# Altium schematic symbol library NXP LPC2000.SchLib: 82 symbols (part 2 of 6)
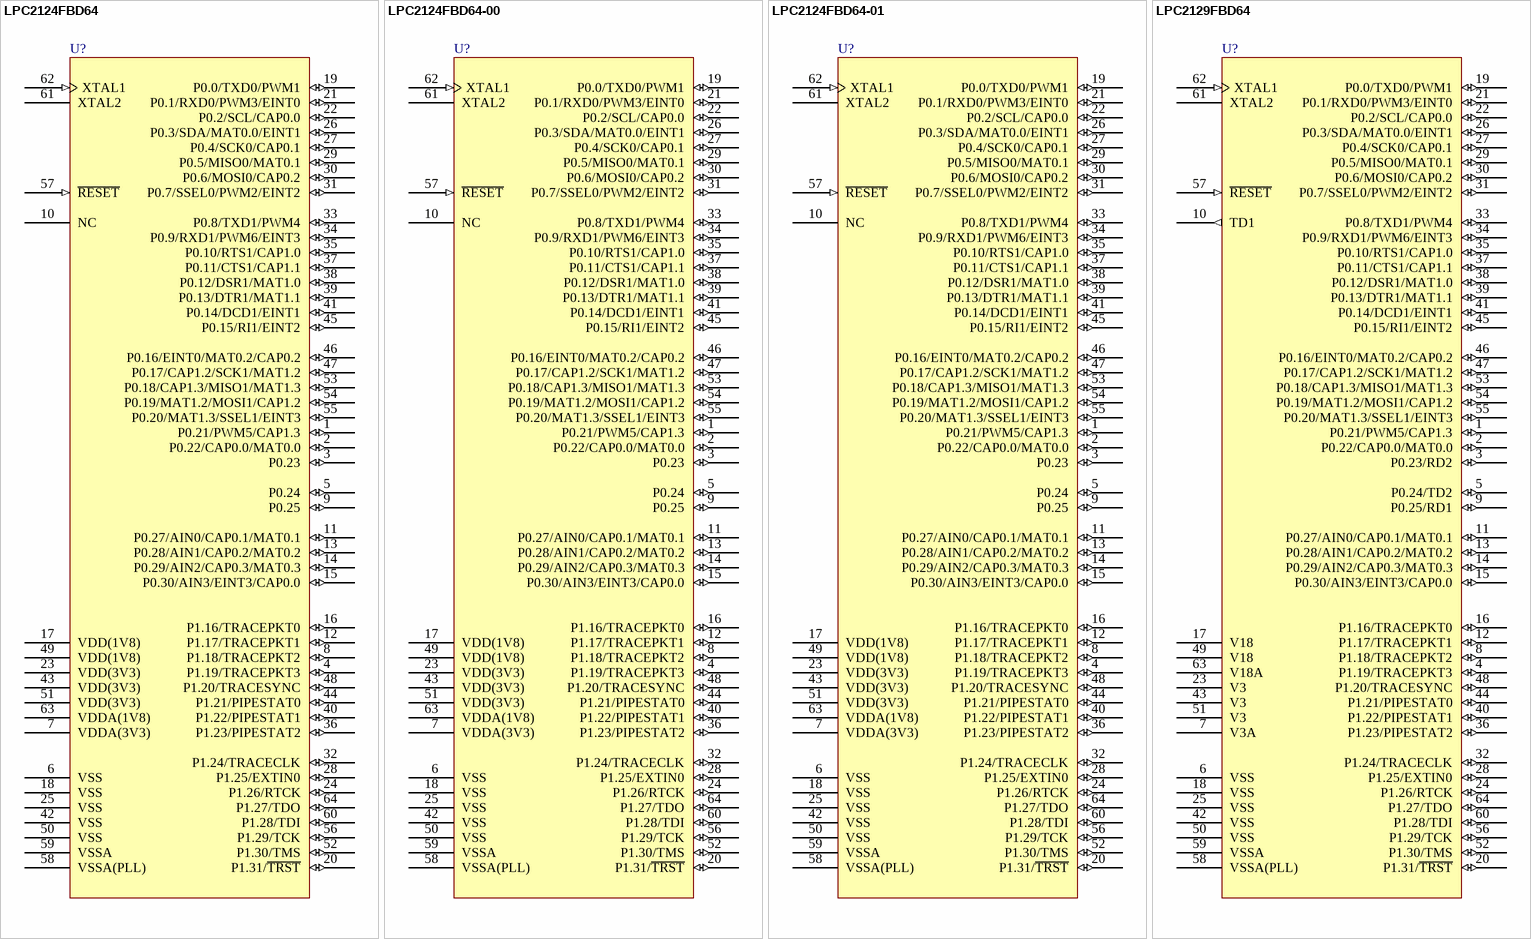
[diagram p30: symbols LPC2124FBD64 to LPC2129FBD64]

## LPC2124FBD64-00
designator U?
ARM7 16/32-Bit Microcontroller, 256KB Flash, 16KB RAM, 64-Lead LQFP; Code_IEC: 136E10; Published: 31-Jul-2006; DatasheetVersion: rev.06, Jul-2007; PackageVersion: Feb-2003; PackageReference: SOT314-2; Publisher: Altium Limited; PackageDescription: 64-Pin Plastic Low Profile Quad Flat Pack; Code_JEDEC: MS-026; ComponentLink1Description: Manufacturer Link; ComponentLink1URL: http://www.nxp.com/; ComponentLink2Description: Datasheet; ComponentLink2URL: http://www.standardics.nxp.com/products/lpc2000/datasheet/lpc2114.lpc2124.pdf
footprint SOT314-2_N (Thin QFP, 64-Leads, Body 10x10mm, Pitch 0.5mm, IPC Medium Density)
footprint SOT314-2_L (Thin QFP, 64-Leads, Body 10x10mm, Pitch 0.5mm, IPC High Density)
footprint SOT314-2_M (Thin QFP, 64-Leads, Body 10x10mm, Pitch 0.5mm, IPC Low Density)
3D model LPC2124-QFP64 (64-Pin Plastic Low Profile Quad Flat Pack)
pins: 1 P0.21/PWM5/CAP1.3 (io), 2 P0.22/CAP0.0/MAT0.0 (io), 3 P0.23 (io), 4 P1.19/TRACEPKT3 (io), 5 P0.24 (io), 6 VSS (power), 7 VDDA(3V3) (power), 8 P1.18/TRACEPKT2 (io), 9 P0.25 (io), 10 NC, 11 P0.27/AIN0/CAP0.1/MAT0.1 (io), 12 P1.17/TRACEPKT1 (io), 13 P0.28/AIN1/CAP0.2/MAT0.2 (io), 14 P0.29/AIN2/CAP0.3/MAT0.3 (io), 15 P0.30/AIN3/EINT3/CAP0.0 (io), 16 P1.16/TRACEPKT0 (io), 17 VDD(1V8) (power), 18 VSS (power), 19 P0.0/TXD0/PWM1 (io), 20 P1.31/~{TRST} (io), 21 P0.1/RXD0/PWM3/EINT0 (io), 22 P0.2/SCL/CAP0.0 (io), 23 VDD(3V3) (power), 24 P1.26/RTCK (io), 25 VSS (power), 26 P0.3/SDA/MAT0.0/EINT1 (io), 27 P0.4/SCK0/CAP0.1 (io), 28 P1.25/EXTIN0 (io), 29 P0.5/MISO0/MAT0.1 (io), 30 P0.6/MOSI0/CAP0.2 (io), 31 P0.7/SSEL0/PWM2/EINT2 (io), 32 P1.24/TRACECLK (io), 33 P0.8/TXD1/PWM4 (io), 34 P0.9/RXD1/PWM6/EINT3 (io), 35 P0.10/RTS1/CAP1.0 (io), 36 P1.23/PIPESTAT2 (io), 37 P0.11/CTS1/CAP1.1 (io), 38 P0.12/DSR1/MAT1.0 (io), 39 P0.13/DTR1/MAT1.1 (io), 40 P1.22/PIPESTAT1 (io), 41 P0.14/DCD1/EINT1 (io), 42 VSS (power), 43 VDD(3V3) (power), 44 P1.21/PIPESTAT0 (io), 45 P0.15/RI1/EINT2 (io), 46 P0.16/EINT0/MAT0.2/CAP0.2 (io), 47 P0.17/CAP1.2/SCK1/MAT1.2 (io), 48 P1.20/TRACESYNC (io), 49 VDD(1V8) (power), 50 VSS (power), 51 VDD(3V3) (power), 52 P1.30/TMS (io), 53 P0.18/CAP1.3/MISO1/MAT1.3 (io), 54 P0.19/MAT1.2/MOSI1/CAP1.2 (io), 55 P0.20/MAT1.3/SSEL1/EINT3 (io), 56 P1.29/TCK (io), 57 ~{RESET} (in), 58 VSSA(PLL) (power), 59 VSSA (power), 60 P1.28/TDI (io), 61 XTAL2, 62 XTAL1 (in), 63 VDDA(1V8) (power), 64 P1.27/TDO (io)

## LPC2124FBD64-01
designator U?
ARM7 16/32-Bit Microcontroller, 256KB Flash, 16KB RAM, Fast GPIO/SSP/Enhanced UART, ADC, Timer, 64-Lead LQFP; Code_IEC: 136E10; Published: 17-Aug-2007; DatasheetVersion: rev.06, Jul-2007; PackageVersion: Feb-2003; PackageReference: SOT314-2; Publisher: Altium Limited; PackageDescription: 64-Pin Plastic Low Profile Quad Flat Pack; Code_JEDEC: MS-026; ComponentLink1Description: Manufacturer Link; ComponentLink1URL: http://www.nxp.com/; ComponentLink2Description: Datasheet; ComponentLink2URL: http://www.standardics.nxp.com/products/lpc2000/datasheet/lpc2114.lpc2124.pdf
footprint SOT314-2_N (Thin QFP, 64-Leads, Body 10x10mm, Pitch 0.5mm, IPC Medium Density)
footprint SOT314-2_L (Thin QFP, 64-Leads, Body 10x10mm, Pitch 0.5mm, IPC High Density)
footprint SOT314-2_M (Thin QFP, 64-Leads, Body 10x10mm, Pitch 0.5mm, IPC Low Density)
3D model LPC2124-QFP64 (64-Pin Plastic Low Profile Quad Flat Pack)
pins: 1 P0.21/PWM5/CAP1.3 (io), 2 P0.22/CAP0.0/MAT0.0 (io), 3 P0.23 (io), 4 P1.19/TRACEPKT3 (io), 5 P0.24 (io), 6 VSS (power), 7 VDDA(3V3) (power), 8 P1.18/TRACEPKT2 (io), 9 P0.25 (io), 10 NC, 11 P0.27/AIN0/CAP0.1/MAT0.1 (io), 12 P1.17/TRACEPKT1 (io), 13 P0.28/AIN1/CAP0.2/MAT0.2 (io), 14 P0.29/AIN2/CAP0.3/MAT0.3 (io), 15 P0.30/AIN3/EINT3/CAP0.0 (io), 16 P1.16/TRACEPKT0 (io), 17 VDD(1V8) (power), 18 VSS (power), 19 P0.0/TXD0/PWM1 (io), 20 P1.31/~{TRST} (io), 21 P0.1/RXD0/PWM3/EINT0 (io), 22 P0.2/SCL/CAP0.0 (io), 23 VDD(3V3) (power), 24 P1.26/RTCK (io), 25 VSS (power), 26 P0.3/SDA/MAT0.0/EINT1 (io), 27 P0.4/SCK0/CAP0.1 (io), 28 P1.25/EXTIN0 (io), 29 P0.5/MISO0/MAT0.1 (io), 30 P0.6/MOSI0/CAP0.2 (io), 31 P0.7/SSEL0/PWM2/EINT2 (io), 32 P1.24/TRACECLK (io), 33 P0.8/TXD1/PWM4 (io), 34 P0.9/RXD1/PWM6/EINT3 (io), 35 P0.10/RTS1/CAP1.0 (io), 36 P1.23/PIPESTAT2 (io), 37 P0.11/CTS1/CAP1.1 (io), 38 P0.12/DSR1/MAT1.0 (io), 39 P0.13/DTR1/MAT1.1 (io), 40 P1.22/PIPESTAT1 (io), 41 P0.14/DCD1/EINT1 (io), 42 VSS (power), 43 VDD(3V3) (power), 44 P1.21/PIPESTAT0 (io), 45 P0.15/RI1/EINT2 (io), 46 P0.16/EINT0/MAT0.2/CAP0.2 (io), 47 P0.17/CAP1.2/SCK1/MAT1.2 (io), 48 P1.20/TRACESYNC (io), 49 VDD(1V8) (power), 50 VSS (power), 51 VDD(3V3) (power), 52 P1.30/TMS (io), 53 P0.18/CAP1.3/MISO1/MAT1.3 (io), 54 P0.19/MAT1.2/MOSI1/CAP1.2 (io), 55 P0.20/MAT1.3/SSEL1/EINT3 (io), 56 P1.29/TCK (io), 57 ~{RESET} (in), 58 VSSA(PLL) (power), 59 VSSA (power), 60 P1.28/TDI (io), 61 XTAL2, 62 XTAL1 (in), 63 VDDA(1V8) (power), 64 P1.27/TDO (io)

## LPC2129FBD64
designator U?
ARM7 16/32-Bit Microcontroller, 256KB Flash, 16KB RAM, 64-Lead LQFP; Code_IEC: 136E10; Published: 31-Jul-2006; DatasheetVersion: rev.06, Jul-2007; PackageVersion: Feb-2003; PackageReference: SOT314-2; Publisher: Altium Limited; PackageDescription: 64-Pin Plastic Low Profile Quad Flat Pack; Code_JEDEC: MS-026; ComponentLink1Description: Manufacturer Link; ComponentLink1URL: http://www.nxp.com/; ComponentLink2Description: Datasheet; ComponentLink2URL: http://www.standardics.nxp.com/products/lpc2000/datasheet/lpc2109.lpc2119.lpc2129.pdf
footprint SOT314-2_N (Thin QFP, 64-Leads, Body 10x10mm, Pitch 0.5mm, IPC Medium Density)
footprint SOT314-2_L (Thin QFP, 64-Leads, Body 10x10mm, Pitch 0.5mm, IPC High Density)
footprint SOT314-2_M (Thin QFP, 64-Leads, Body 10x10mm, Pitch 0.5mm, IPC Low Density)
3D model LPC2129-QFP64 (64-Pin Plastic Low Profile Quad Flat Pack)
pins: 1 P0.21/PWM5/CAP1.3 (io), 2 P0.22/CAP0.0/MAT0.0 (io), 3 P0.23/RD2 (io), 4 P1.19/TRACEPKT3 (io), 5 P0.24/TD2 (io), 6 VSS (power), 7 V3A (power), 8 P1.18/TRACEPKT2 (io), 9 P0.25/RD1 (io), 10 TD1 (out), 11 P0.27/AIN0/CAP0.1/MAT0.1 (io), 12 P1.17/TRACEPKT1 (io), 13 P0.28/AIN1/CAP0.2/MAT0.2 (io), 14 P0.29/AIN2/CAP0.3/MAT0.3 (io), 15 P0.30/AIN3/EINT3/CAP0.0 (io), 16 P1.16/TRACEPKT0 (io), 17 V18 (power), 18 VSS (power), 19 P0.0/TXD0/PWM1 (io), 20 P1.31/~{TRST} (io), 21 P0.1/RXD0/PWM3/EINT0 (io), 22 P0.2/SCL/CAP0.0 (io), 23 V3 (power), 24 P1.26/RTCK (io), 25 VSS (power), 26 P0.3/SDA/MAT0.0/EINT1 (io), 27 P0.4/SCK0/CAP0.1 (io), 28 P1.25/EXTIN0 (io), 29 P0.5/MISO0/MAT0.1 (io), 30 P0.6/MOSI0/CAP0.2 (io), 31 P0.7/SSEL0/PWM2/EINT2 (io), 32 P1.24/TRACECLK (io), 33 P0.8/TXD1/PWM4 (io), 34 P0.9/RXD1/PWM6/EINT3 (io), 35 P0.10/RTS1/CAP1.0 (io), 36 P1.23/PIPESTAT2 (io), 37 P0.11/CTS1/CAP1.1 (io), 38 P0.12/DSR1/MAT1.0 (io), 39 P0.13/DTR1/MAT1.1 (io), 40 P1.22/PIPESTAT1 (io), 41 P0.14/DCD1/EINT1 (io), 42 VSS (power), 43 V3 (power), 44 P1.21/PIPESTAT0 (io), 45 P0.15/RI1/EINT2 (io), 46 P0.16/EINT0/MAT0.2/CAP0.2 (io), 47 P0.17/CAP1.2/SCK1/MAT1.2 (io), 48 P1.20/TRACESYNC (io), 49 V18 (power), 50 VSS (power), 51 V3 (power), 52 P1.30/TMS (io), 53 P0.18/CAP1.3/MISO1/MAT1.3 (io), 54 P0.19/MAT1.2/MOSI1/CAP1.2 (io), 55 P0.20/MAT1.3/SSEL1/EINT3 (io), 56 P1.29/TCK (io), 57 ~{RESET} (in), 58 VSSA(PLL) (power), 59 VSSA (power), 60 P1.28/TDI (io), 61 XTAL2, 62 XTAL1 (in), 63 V18A (power), 64 P1.27/TDO (io)

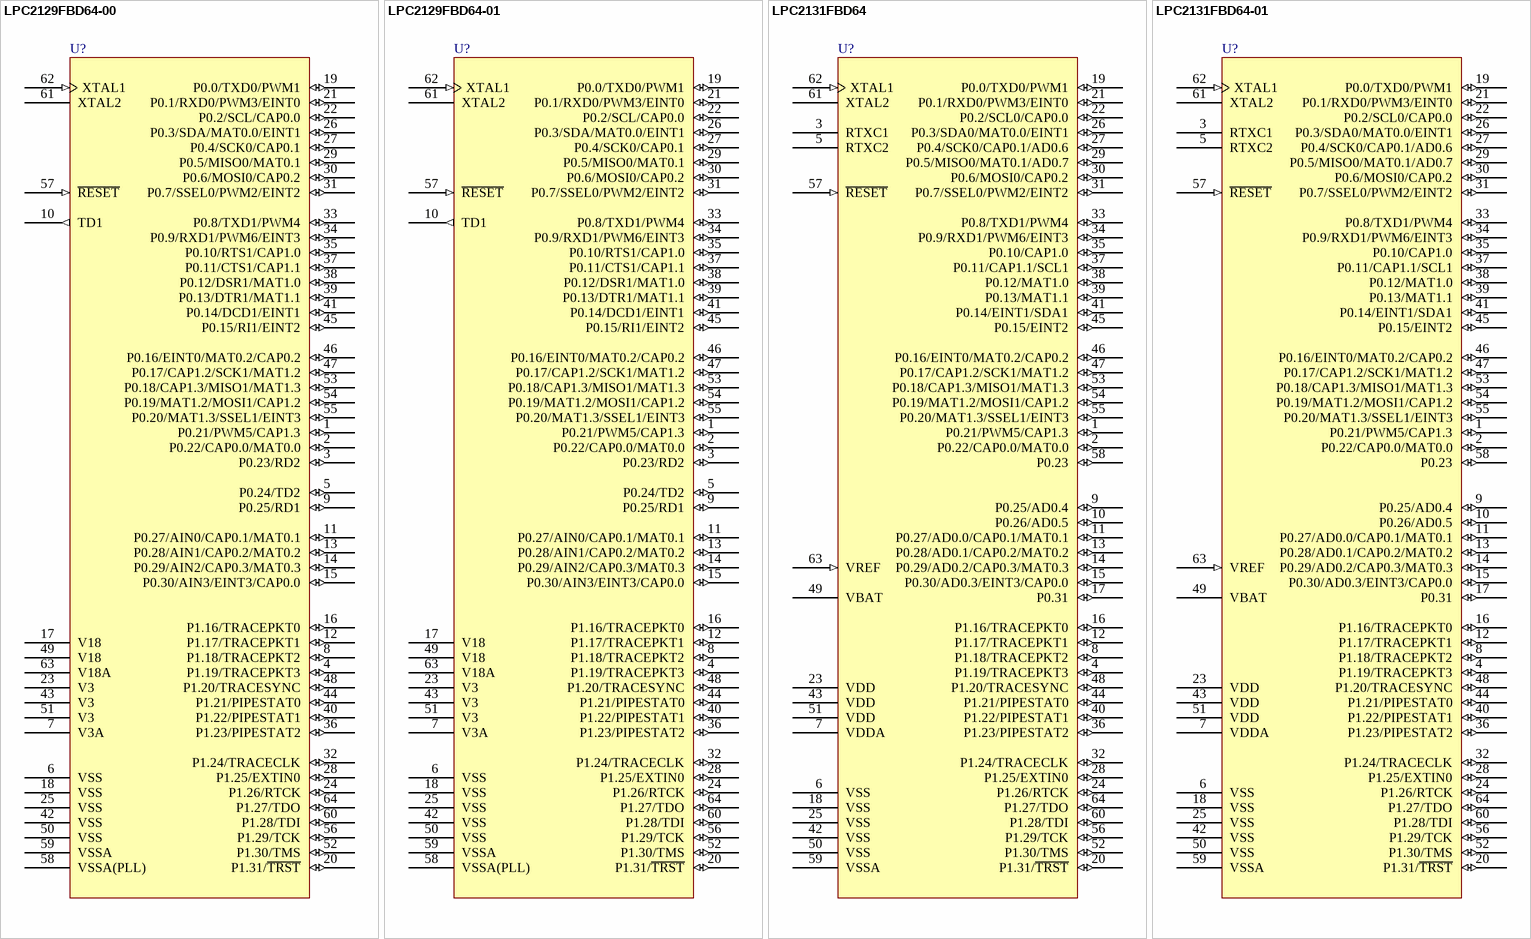
[diagram p5: symbols LPC2129FBD64-00 to LPC2131FBD64-01]

## LPC2129FBD64-00
designator U?
ARM7 16/32-Bit Microcontroller, 256KB Flash, 16KB RAM, 64-Lead LQFP; Code_IEC: 136E10; Published: 17-Aug-2007; DatasheetVersion: rev.06, Jul-2007; PackageVersion: Feb-2003; PackageReference: SOT314-2; Publisher: Altium Limited; PackageDescription: 64-Pin Plastic Low Profile Quad Flat Pack; Code_JEDEC: MS-026; ComponentLink1Description: Manufacturer Link; ComponentLink1URL: http://www.nxp.com/; ComponentLink2Description: Datasheet; ComponentLink2URL: http://www.standardics.nxp.com/products/lpc2000/datasheet/lpc2109.lpc2119.lpc2129.pdf
footprint SOT314-2_N (Thin QFP, 64-Leads, Body 10x10mm, Pitch 0.5mm, IPC Medium Density)
footprint SOT314-2_L (Thin QFP, 64-Leads, Body 10x10mm, Pitch 0.5mm, IPC High Density)
footprint SOT314-2_M (Thin QFP, 64-Leads, Body 10x10mm, Pitch 0.5mm, IPC Low Density)
3D model LPC2129-QFP64 (64-Pin Plastic Low Profile Quad Flat Pack)
pins: 1 P0.21/PWM5/CAP1.3 (io), 2 P0.22/CAP0.0/MAT0.0 (io), 3 P0.23/RD2 (io), 4 P1.19/TRACEPKT3 (io), 5 P0.24/TD2 (io), 6 VSS (power), 7 V3A (power), 8 P1.18/TRACEPKT2 (io), 9 P0.25/RD1 (io), 10 TD1 (out), 11 P0.27/AIN0/CAP0.1/MAT0.1 (io), 12 P1.17/TRACEPKT1 (io), 13 P0.28/AIN1/CAP0.2/MAT0.2 (io), 14 P0.29/AIN2/CAP0.3/MAT0.3 (io), 15 P0.30/AIN3/EINT3/CAP0.0 (io), 16 P1.16/TRACEPKT0 (io), 17 V18 (power), 18 VSS (power), 19 P0.0/TXD0/PWM1 (io), 20 P1.31/~{TRST} (io), 21 P0.1/RXD0/PWM3/EINT0 (io), 22 P0.2/SCL/CAP0.0 (io), 23 V3 (power), 24 P1.26/RTCK (io), 25 VSS (power), 26 P0.3/SDA/MAT0.0/EINT1 (io), 27 P0.4/SCK0/CAP0.1 (io), 28 P1.25/EXTIN0 (io), 29 P0.5/MISO0/MAT0.1 (io), 30 P0.6/MOSI0/CAP0.2 (io), 31 P0.7/SSEL0/PWM2/EINT2 (io), 32 P1.24/TRACECLK (io), 33 P0.8/TXD1/PWM4 (io), 34 P0.9/RXD1/PWM6/EINT3 (io), 35 P0.10/RTS1/CAP1.0 (io), 36 P1.23/PIPESTAT2 (io), 37 P0.11/CTS1/CAP1.1 (io), 38 P0.12/DSR1/MAT1.0 (io), 39 P0.13/DTR1/MAT1.1 (io), 40 P1.22/PIPESTAT1 (io), 41 P0.14/DCD1/EINT1 (io), 42 VSS (power), 43 V3 (power), 44 P1.21/PIPESTAT0 (io), 45 P0.15/RI1/EINT2 (io), 46 P0.16/EINT0/MAT0.2/CAP0.2 (io), 47 P0.17/CAP1.2/SCK1/MAT1.2 (io), 48 P1.20/TRACESYNC (io), 49 V18 (power), 50 VSS (power), 51 V3 (power), 52 P1.30/TMS (io), 53 P0.18/CAP1.3/MISO1/MAT1.3 (io), 54 P0.19/MAT1.2/MOSI1/CAP1.2 (io), 55 P0.20/MAT1.3/SSEL1/EINT3 (io), 56 P1.29/TCK (io), 57 ~{RESET} (in), 58 VSSA(PLL) (power), 59 VSSA (power), 60 P1.28/TDI (io), 61 XTAL2, 62 XTAL1 (in), 63 V18A (power), 64 P1.27/TDO (io)

## LPC2129FBD64-01
designator U?
ARM7 16/32-Bit Microcontroller, 256KB Flash, 16KB RAM, Fast GPIO/SSP/Enhanced UART, ADC, Timer, 64-Lead LQFP; Code_IEC: 136E10; Published: 17-Aug-2007; DatasheetVersion: rev.06, Jul-2007; PackageVersion: Feb-2003; PackageReference: SOT314-2; Publisher: Altium Limited; PackageDescription: 64-Pin Plastic Low Profile Quad Flat Pack; Code_JEDEC: MS-026; ComponentLink1Description: Manufacturer Link; ComponentLink1URL: http://www.nxp.com/; ComponentLink2Description: Datasheet; ComponentLink2URL: http://www.standardics.nxp.com/products/lpc2000/datasheet/lpc2109.lpc2119.lpc2129.pdf
footprint SOT314-2_N (Thin QFP, 64-Leads, Body 10x10mm, Pitch 0.5mm, IPC Medium Density)
footprint SOT314-2_L (Thin QFP, 64-Leads, Body 10x10mm, Pitch 0.5mm, IPC High Density)
footprint SOT314-2_M (Thin QFP, 64-Leads, Body 10x10mm, Pitch 0.5mm, IPC Low Density)
3D model LPC2129-QFP64 (64-Pin Plastic Low Profile Quad Flat Pack)
pins: 1 P0.21/PWM5/CAP1.3 (io), 2 P0.22/CAP0.0/MAT0.0 (io), 3 P0.23/RD2 (io), 4 P1.19/TRACEPKT3 (io), 5 P0.24/TD2 (io), 6 VSS (power), 7 V3A (power), 8 P1.18/TRACEPKT2 (io), 9 P0.25/RD1 (io), 10 TD1 (out), 11 P0.27/AIN0/CAP0.1/MAT0.1 (io), 12 P1.17/TRACEPKT1 (io), 13 P0.28/AIN1/CAP0.2/MAT0.2 (io), 14 P0.29/AIN2/CAP0.3/MAT0.3 (io), 15 P0.30/AIN3/EINT3/CAP0.0 (io), 16 P1.16/TRACEPKT0 (io), 17 V18 (power), 18 VSS (power), 19 P0.0/TXD0/PWM1 (io), 20 P1.31/~{TRST} (io), 21 P0.1/RXD0/PWM3/EINT0 (io), 22 P0.2/SCL/CAP0.0 (io), 23 V3 (power), 24 P1.26/RTCK (io), 25 VSS (power), 26 P0.3/SDA/MAT0.0/EINT1 (io), 27 P0.4/SCK0/CAP0.1 (io), 28 P1.25/EXTIN0 (io), 29 P0.5/MISO0/MAT0.1 (io), 30 P0.6/MOSI0/CAP0.2 (io), 31 P0.7/SSEL0/PWM2/EINT2 (io), 32 P1.24/TRACECLK (io), 33 P0.8/TXD1/PWM4 (io), 34 P0.9/RXD1/PWM6/EINT3 (io), 35 P0.10/RTS1/CAP1.0 (io), 36 P1.23/PIPESTAT2 (io), 37 P0.11/CTS1/CAP1.1 (io), 38 P0.12/DSR1/MAT1.0 (io), 39 P0.13/DTR1/MAT1.1 (io), 40 P1.22/PIPESTAT1 (io), 41 P0.14/DCD1/EINT1 (io), 42 VSS (power), 43 V3 (power), 44 P1.21/PIPESTAT0 (io), 45 P0.15/RI1/EINT2 (io), 46 P0.16/EINT0/MAT0.2/CAP0.2 (io), 47 P0.17/CAP1.2/SCK1/MAT1.2 (io), 48 P1.20/TRACESYNC (io), 49 V18 (power), 50 VSS (power), 51 V3 (power), 52 P1.30/TMS (io), 53 P0.18/CAP1.3/MISO1/MAT1.3 (io), 54 P0.19/MAT1.2/MOSI1/CAP1.2 (io), 55 P0.20/MAT1.3/SSEL1/EINT3 (io), 56 P1.29/TCK (io), 57 ~{RESET} (in), 58 VSSA(PLL) (power), 59 VSSA (power), 60 P1.28/TDI (io), 61 XTAL2, 62 XTAL1 (in), 63 V18A (power), 64 P1.27/TDO (io)

## LPC2131FBD64
designator U?
ARM7 16/32-Bit Microcontroller, 32KB Flash, 8KB RAM, 64-Lead LQFP; Code_IEC: 136E10; Published: 31-Jul-2006; DatasheetVersion: rev.03, Sep-2006; PackageVersion: Feb-2003; PackageReference: SOT314-2; Publisher: Altium Limited; PackageDescription: 64-Pin Plastic Low Profile Quad Flat Pack; Code_JEDEC: MS-026; ComponentLink1Description: Manufacturer Link; ComponentLink1URL: http://www.nxp.com/; ComponentLink2Description: Datasheet; ComponentLink2URL: http://www.standardics.nxp.com/products/lpc2000/datasheet/lpc2131.lpc2132.lpc2134.lpc2136.lpc2138.pdf
footprint SOT314-2_N (Thin QFP, 64-Leads, Body 10x10mm, Pitch 0.5mm, IPC Medium Density)
footprint SOT314-2_L (Thin QFP, 64-Leads, Body 10x10mm, Pitch 0.5mm, IPC High Density)
footprint SOT314-2_M (Thin QFP, 64-Leads, Body 10x10mm, Pitch 0.5mm, IPC Low Density)
3D model LPC2131-QFP64 (64-Pin Plastic Low Profile Quad Flat Pack)
pins: 1 P0.21/PWM5/CAP1.3 (io), 2 P0.22/CAP0.0/MAT0.0 (io), 3 RTXC1, 4 P1.19/TRACEPKT3 (io), 5 RTXC2, 6 VSS (power), 7 VDDA (power), 8 P1.18/TRACEPKT2 (io), 9 P0.25/AD0.4 (io), 10 P0.26/AD0.5 (io), 11 P0.27/AD0.0/CAP0.1/MAT0.1 (io), 12 P1.17/TRACEPKT1 (io), 13 P0.28/AD0.1/CAP0.2/MAT0.2 (io), 14 P0.29/AD0.2/CAP0.3/MAT0.3 (io), 15 P0.30/AD0.3/EINT3/CAP0.0 (io), 16 P1.16/TRACEPKT0 (io), 17 P0.31 (io), 18 VSS (power), 19 P0.0/TXD0/PWM1 (io), 20 P1.31/~{TRST} (io), 21 P0.1/RXD0/PWM3/EINT0 (io), 22 P0.2/SCL0/CAP0.0 (io), 23 VDD (power), 24 P1.26/RTCK (io), 25 VSS (power), 26 P0.3/SDA0/MAT0.0/EINT1 (io), 27 P0.4/SCK0/CAP0.1/AD0.6 (io), 28 P1.25/EXTIN0 (io), 29 P0.5/MISO0/MAT0.1/AD0.7 (io), 30 P0.6/MOSI0/CAP0.2 (io), 31 P0.7/SSEL0/PWM2/EINT2 (io), 32 P1.24/TRACECLK (io), 33 P0.8/TXD1/PWM4 (io), 34 P0.9/RXD1/PWM6/EINT3 (io), 35 P0.10/CAP1.0 (io), 36 P1.23/PIPESTAT2 (io), 37 P0.11/CAP1.1/SCL1 (io), 38 P0.12/MAT1.0 (io), 39 P0.13/MAT1.1 (io), 40 P1.22/PIPESTAT1 (io), 41 P0.14/EINT1/SDA1 (io), 42 VSS (power), 43 VDD (power), 44 P1.21/PIPESTAT0 (io), 45 P0.15/EINT2 (io), 46 P0.16/EINT0/MAT0.2/CAP0.2 (io), 47 P0.17/CAP1.2/SCK1/MAT1.2 (io), 48 P1.20/TRACESYNC (io), 49 VBAT (power), 50 VSS (power), 51 VDD (power), 52 P1.30/TMS (io), 53 P0.18/CAP1.3/MISO1/MAT1.3 (io), 54 P0.19/MAT1.2/MOSI1/CAP1.2 (io), 55 P0.20/MAT1.3/SSEL1/EINT3 (io), 56 P1.29/TCK (io), 57 ~{RESET} (in), 58 P0.23 (io), 59 VSSA (power), 60 P1.28/TDI (io), 61 XTAL2, 62 XTAL1 (in), 63 VREF (in), 64 P1.27/TDO (io)

## LPC2131FBD64-01
designator U?
ARM7 16/32-Bit Microcontroller, 32KB Flash, 8KB RAM, Enhanced UART, ADC, Fast I/O and BOD, 64-Lead LQFP; Code_IEC: 136E10; Published: 17-Aug-2007; DatasheetVersion: rev.03, Sep-2006; PackageVersion: Feb-2003; PackageReference: SOT314-2; Publisher: Altium Limited; PackageDescription: 64-Pin Plastic Low Profile Quad Flat Pack; Code_JEDEC: MS-026; ComponentLink1Description: Manufacturer Link; ComponentLink1URL: http://www.nxp.com/; ComponentLink2Description: Datasheet; ComponentLink2URL: http://www.standardics.nxp.com/products/lpc2000/datasheet/lpc2131.lpc2132.lpc2134.lpc2136.lpc2138.pdf
footprint SOT314-2_N (Thin QFP, 64-Leads, Body 10x10mm, Pitch 0.5mm, IPC Medium Density)
footprint SOT314-2_L (Thin QFP, 64-Leads, Body 10x10mm, Pitch 0.5mm, IPC High Density)
footprint SOT314-2_M (Thin QFP, 64-Leads, Body 10x10mm, Pitch 0.5mm, IPC Low Density)
3D model LPC2131-QFP64 (64-Pin Plastic Low Profile Quad Flat Pack)
pins: 1 P0.21/PWM5/CAP1.3 (io), 2 P0.22/CAP0.0/MAT0.0 (io), 3 RTXC1, 4 P1.19/TRACEPKT3 (io), 5 RTXC2, 6 VSS (power), 7 VDDA (power), 8 P1.18/TRACEPKT2 (io), 9 P0.25/AD0.4 (io), 10 P0.26/AD0.5 (io), 11 P0.27/AD0.0/CAP0.1/MAT0.1 (io), 12 P1.17/TRACEPKT1 (io), 13 P0.28/AD0.1/CAP0.2/MAT0.2 (io), 14 P0.29/AD0.2/CAP0.3/MAT0.3 (io), 15 P0.30/AD0.3/EINT3/CAP0.0 (io), 16 P1.16/TRACEPKT0 (io), 17 P0.31 (io), 18 VSS (power), 19 P0.0/TXD0/PWM1 (io), 20 P1.31/~{TRST} (io), 21 P0.1/RXD0/PWM3/EINT0 (io), 22 P0.2/SCL0/CAP0.0 (io), 23 VDD (power), 24 P1.26/RTCK (io), 25 VSS (power), 26 P0.3/SDA0/MAT0.0/EINT1 (io), 27 P0.4/SCK0/CAP0.1/AD0.6 (io), 28 P1.25/EXTIN0 (io), 29 P0.5/MISO0/MAT0.1/AD0.7 (io), 30 P0.6/MOSI0/CAP0.2 (io), 31 P0.7/SSEL0/PWM2/EINT2 (io), 32 P1.24/TRACECLK (io), 33 P0.8/TXD1/PWM4 (io), 34 P0.9/RXD1/PWM6/EINT3 (io), 35 P0.10/CAP1.0 (io), 36 P1.23/PIPESTAT2 (io), 37 P0.11/CAP1.1/SCL1 (io), 38 P0.12/MAT1.0 (io), 39 P0.13/MAT1.1 (io), 40 P1.22/PIPESTAT1 (io), 41 P0.14/EINT1/SDA1 (io), 42 VSS (power), 43 VDD (power), 44 P1.21/PIPESTAT0 (io), 45 P0.15/EINT2 (io), 46 P0.16/EINT0/MAT0.2/CAP0.2 (io), 47 P0.17/CAP1.2/SCK1/MAT1.2 (io), 48 P1.20/TRACESYNC (io), 49 VBAT (power), 50 VSS (power), 51 VDD (power), 52 P1.30/TMS (io), 53 P0.18/CAP1.3/MISO1/MAT1.3 (io), 54 P0.19/MAT1.2/MOSI1/CAP1.2 (io), 55 P0.20/MAT1.3/SSEL1/EINT3 (io), 56 P1.29/TCK (io), 57 ~{RESET} (in), 58 P0.23 (io), 59 VSSA (power), 60 P1.28/TDI (io), 61 XTAL2, 62 XTAL1 (in), 63 VREF (in), 64 P1.27/TDO (io)

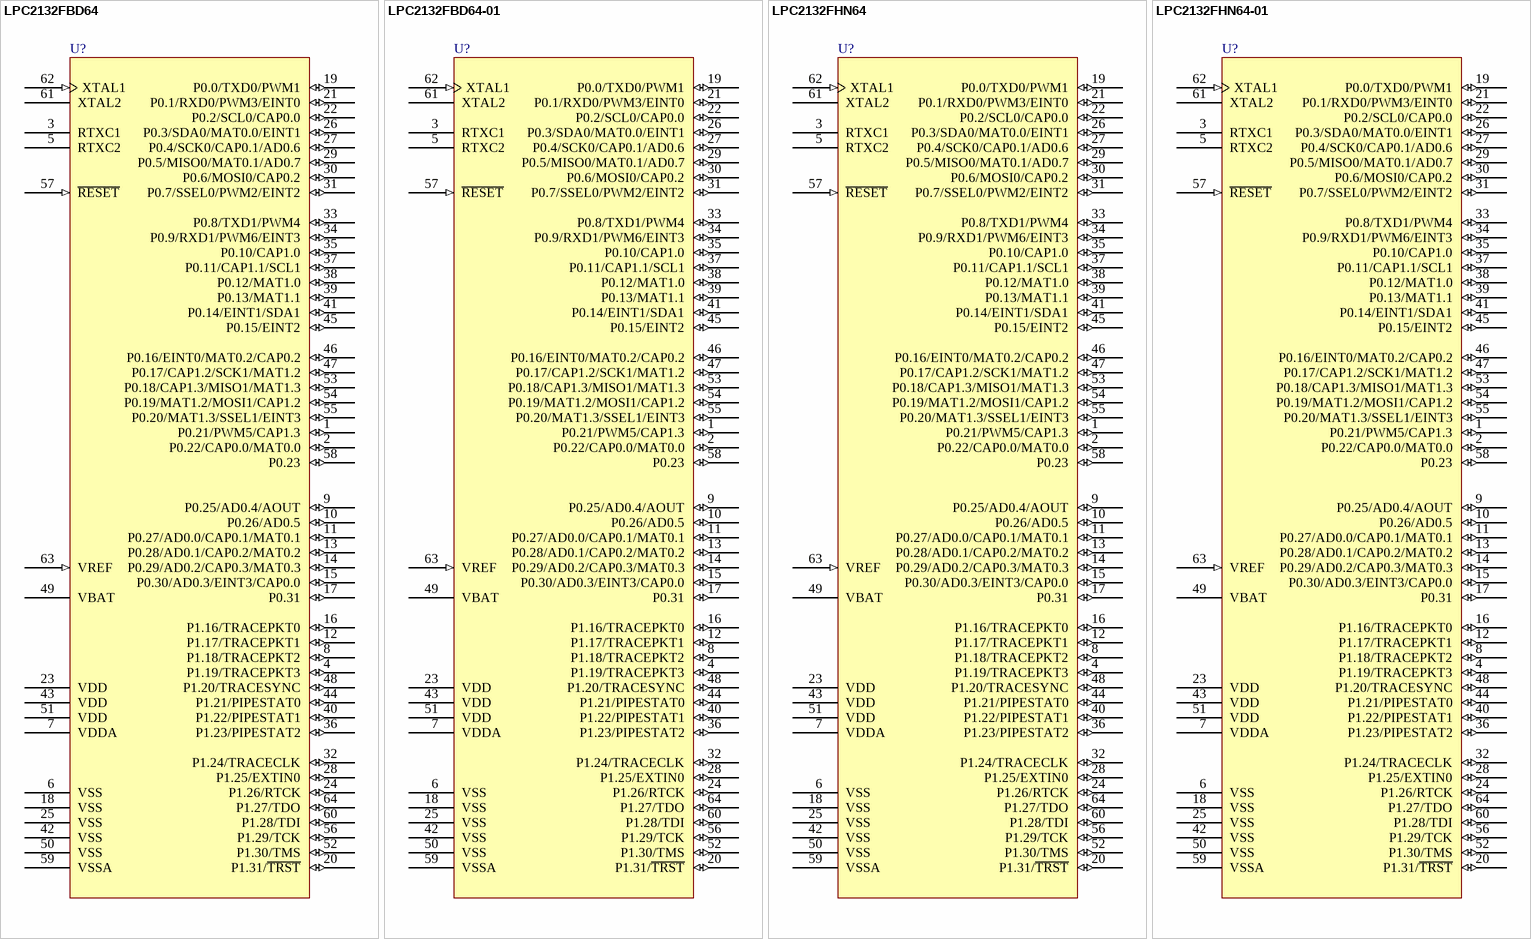
[diagram p6: symbols LPC2132FBD64 to LPC2132FHN64-01]

## LPC2132FBD64
designator U?
ARM7 16/32-Bit Microcontroller, 64KB Flash, 16KB RAM, 64-Lead LQFP; Code_IEC: 136E10; Published: 31-Jul-2006; DatasheetVersion: rev.03, Sep-2006; PackageVersion: Feb-2003; PackageReference: SOT314-2; Publisher: Altium Limited; PackageDescription: 64-Pin Plastic Low Profile Quad Flat Pack; Code_JEDEC: MS-026; ComponentLink1Description: Manufacturer Link; ComponentLink1URL: http://www.nxp.com/; ComponentLink2Description: Datasheet; ComponentLink2URL: http://www.standardics.nxp.com/products/lpc2000/datasheet/lpc2131.lpc2132.lpc2134.lpc2136.lpc2138.pdf
footprint SOT314-2_N (Thin QFP, 64-Leads, Body 10x10mm, Pitch 0.5mm, IPC Medium Density)
footprint SOT314-2_L (Thin QFP, 64-Leads, Body 10x10mm, Pitch 0.5mm, IPC High Density)
footprint SOT314-2_M (Thin QFP, 64-Leads, Body 10x10mm, Pitch 0.5mm, IPC Low Density)
3D model LPC2132-QFP64 (64-Pin Plastic Low Profile Quad Flat Pack)
pins: 1 P0.21/PWM5/CAP1.3 (io), 2 P0.22/CAP0.0/MAT0.0 (io), 3 RTXC1, 4 P1.19/TRACEPKT3 (io), 5 RTXC2, 6 VSS (power), 7 VDDA (power), 8 P1.18/TRACEPKT2 (io), 9 P0.25/AD0.4/AOUT (io), 10 P0.26/AD0.5 (io), 11 P0.27/AD0.0/CAP0.1/MAT0.1 (io), 12 P1.17/TRACEPKT1 (io), 13 P0.28/AD0.1/CAP0.2/MAT0.2 (io), 14 P0.29/AD0.2/CAP0.3/MAT0.3 (io), 15 P0.30/AD0.3/EINT3/CAP0.0 (io), 16 P1.16/TRACEPKT0 (io), 17 P0.31 (io), 18 VSS (power), 19 P0.0/TXD0/PWM1 (io), 20 P1.31/~{TRST} (io), 21 P0.1/RXD0/PWM3/EINT0 (io), 22 P0.2/SCL0/CAP0.0 (io), 23 VDD (power), 24 P1.26/RTCK (io), 25 VSS (power), 26 P0.3/SDA0/MAT0.0/EINT1 (io), 27 P0.4/SCK0/CAP0.1/AD0.6 (io), 28 P1.25/EXTIN0 (io), 29 P0.5/MISO0/MAT0.1/AD0.7 (io), 30 P0.6/MOSI0/CAP0.2 (io), 31 P0.7/SSEL0/PWM2/EINT2 (io), 32 P1.24/TRACECLK (io), 33 P0.8/TXD1/PWM4 (io), 34 P0.9/RXD1/PWM6/EINT3 (io), 35 P0.10/CAP1.0 (io), 36 P1.23/PIPESTAT2 (io), 37 P0.11/CAP1.1/SCL1 (io), 38 P0.12/MAT1.0 (io), 39 P0.13/MAT1.1 (io), 40 P1.22/PIPESTAT1 (io), 41 P0.14/EINT1/SDA1 (io), 42 VSS (power), 43 VDD (power), 44 P1.21/PIPESTAT0 (io), 45 P0.15/EINT2 (io), 46 P0.16/EINT0/MAT0.2/CAP0.2 (io), 47 P0.17/CAP1.2/SCK1/MAT1.2 (io), 48 P1.20/TRACESYNC (io), 49 VBAT (power), 50 VSS (power), 51 VDD (power), 52 P1.30/TMS (io), 53 P0.18/CAP1.3/MISO1/MAT1.3 (io), 54 P0.19/MAT1.2/MOSI1/CAP1.2 (io), 55 P0.20/MAT1.3/SSEL1/EINT3 (io), 56 P1.29/TCK (io), 57 ~{RESET} (in), 58 P0.23 (io), 59 VSSA (power), 60 P1.28/TDI (io), 61 XTAL2, 62 XTAL1 (in), 63 VREF (in), 64 P1.27/TDO (io)

## LPC2132FBD64-01
designator U?
ARM7 16/32-Bit Microcontroller, 64KB Flash, 16KB RAM, Enhanced UART, ADC, Fast I/O and BOD, 64-Lead LQFP; Code_IEC: 136E10; Published: 17-Aug-2007; DatasheetVersion: rev.03, Sep-2006; PackageVersion: Feb-2003; PackageReference: SOT314-2; Publisher: Altium Limited; PackageDescription: 64-Pin Plastic Low Profile Quad Flat Pack; Code_JEDEC: MS-026; ComponentLink1Description: Manufacturer Link; ComponentLink1URL: http://www.nxp.com/; ComponentLink2Description: Datasheet; ComponentLink2URL: http://www.standardics.nxp.com/products/lpc2000/datasheet/lpc2131.lpc2132.lpc2134.lpc2136.lpc2138.pdf
footprint SOT314-2_N (Thin QFP, 64-Leads, Body 10x10mm, Pitch 0.5mm, IPC Medium Density)
footprint SOT314-2_L (Thin QFP, 64-Leads, Body 10x10mm, Pitch 0.5mm, IPC High Density)
footprint SOT314-2_M (Thin QFP, 64-Leads, Body 10x10mm, Pitch 0.5mm, IPC Low Density)
3D model LPC2132-QFP64 (64-Pin Plastic Low Profile Quad Flat Pack)
pins: 1 P0.21/PWM5/CAP1.3 (io), 2 P0.22/CAP0.0/MAT0.0 (io), 3 RTXC1, 4 P1.19/TRACEPKT3 (io), 5 RTXC2, 6 VSS (power), 7 VDDA (power), 8 P1.18/TRACEPKT2 (io), 9 P0.25/AD0.4/AOUT (io), 10 P0.26/AD0.5 (io), 11 P0.27/AD0.0/CAP0.1/MAT0.1 (io), 12 P1.17/TRACEPKT1 (io), 13 P0.28/AD0.1/CAP0.2/MAT0.2 (io), 14 P0.29/AD0.2/CAP0.3/MAT0.3 (io), 15 P0.30/AD0.3/EINT3/CAP0.0 (io), 16 P1.16/TRACEPKT0 (io), 17 P0.31 (io), 18 VSS (power), 19 P0.0/TXD0/PWM1 (io), 20 P1.31/~{TRST} (io), 21 P0.1/RXD0/PWM3/EINT0 (io), 22 P0.2/SCL0/CAP0.0 (io), 23 VDD (power), 24 P1.26/RTCK (io), 25 VSS (power), 26 P0.3/SDA0/MAT0.0/EINT1 (io), 27 P0.4/SCK0/CAP0.1/AD0.6 (io), 28 P1.25/EXTIN0 (io), 29 P0.5/MISO0/MAT0.1/AD0.7 (io), 30 P0.6/MOSI0/CAP0.2 (io), 31 P0.7/SSEL0/PWM2/EINT2 (io), 32 P1.24/TRACECLK (io), 33 P0.8/TXD1/PWM4 (io), 34 P0.9/RXD1/PWM6/EINT3 (io), 35 P0.10/CAP1.0 (io), 36 P1.23/PIPESTAT2 (io), 37 P0.11/CAP1.1/SCL1 (io), 38 P0.12/MAT1.0 (io), 39 P0.13/MAT1.1 (io), 40 P1.22/PIPESTAT1 (io), 41 P0.14/EINT1/SDA1 (io), 42 VSS (power), 43 VDD (power), 44 P1.21/PIPESTAT0 (io), 45 P0.15/EINT2 (io), 46 P0.16/EINT0/MAT0.2/CAP0.2 (io), 47 P0.17/CAP1.2/SCK1/MAT1.2 (io), 48 P1.20/TRACESYNC (io), 49 VBAT (power), 50 VSS (power), 51 VDD (power), 52 P1.30/TMS (io), 53 P0.18/CAP1.3/MISO1/MAT1.3 (io), 54 P0.19/MAT1.2/MOSI1/CAP1.2 (io), 55 P0.20/MAT1.3/SSEL1/EINT3 (io), 56 P1.29/TCK (io), 57 ~{RESET} (in), 58 P0.23 (io), 59 VSSA (power), 60 P1.28/TDI (io), 61 XTAL2, 62 XTAL1 (in), 63 VREF (in), 64 P1.27/TDO (io)

## LPC2132FHN64
designator U?
ARM7 16/32-Bit Microcontroller, 64KB Flash, 16KB RAM, 64-Lead LQFP; Published: 17-Aug-2007; DatasheetVersion: rev.03, Sep-2006; PackageVersion: Mar-2004; PackageReference: SOT804-2; Publisher: Altium Limited; PackageDescription: 64-Pin Plastic Thermal Enhanced Very Thin Quad Flat Pack No-Lead, HVQFN64; Code_JEDEC: MO-220; ComponentLink1Description: Manufacturer Link; ComponentLink1URL: http://www.nxp.com/; ComponentLink2Description: Datasheet; ComponentLink2URL: http://www.standardics.nxp.com/products/lpc2000/datasheet/lpc2131.lpc2132.lpc2134.lpc2136.lpc2138.pdf
footprint SOT804-2_N (QFN, 64-Leads, Body 9x9mm, Pitch 0.5mm, IPC Medium Density)
footprint SOT804-2_L (QFN, 64-Leads, Body 9x9mm, Pitch 0.5mm, IPC High Density)
footprint SOT804-2_M (QFN, 64-Leads, Body 9x9mm, Pitch 0.5mm, IPC Low Density)
3D model LPC2132-FHN64 (64-Pin Plastic Thermal Enhanced Very Thin Quad Flat Pack No-Lead, HVQFN64)
pins: 1 P0.21/PWM5/CAP1.3 (io), 2 P0.22/CAP0.0/MAT0.0 (io), 3 RTXC1, 4 P1.19/TRACEPKT3 (io), 5 RTXC2, 6 VSS (power), 7 VDDA (power), 8 P1.18/TRACEPKT2 (io), 9 P0.25/AD0.4/AOUT (io), 10 P0.26/AD0.5 (io), 11 P0.27/AD0.0/CAP0.1/MAT0.1 (io), 12 P1.17/TRACEPKT1 (io), 13 P0.28/AD0.1/CAP0.2/MAT0.2 (io), 14 P0.29/AD0.2/CAP0.3/MAT0.3 (io), 15 P0.30/AD0.3/EINT3/CAP0.0 (io), 16 P1.16/TRACEPKT0 (io), 17 P0.31 (io), 18 VSS (power), 19 P0.0/TXD0/PWM1 (io), 20 P1.31/~{TRST} (io), 21 P0.1/RXD0/PWM3/EINT0 (io), 22 P0.2/SCL0/CAP0.0 (io), 23 VDD (power), 24 P1.26/RTCK (io), 25 VSS (power), 26 P0.3/SDA0/MAT0.0/EINT1 (io), 27 P0.4/SCK0/CAP0.1/AD0.6 (io), 28 P1.25/EXTIN0 (io), 29 P0.5/MISO0/MAT0.1/AD0.7 (io), 30 P0.6/MOSI0/CAP0.2 (io), 31 P0.7/SSEL0/PWM2/EINT2 (io), 32 P1.24/TRACECLK (io), 33 P0.8/TXD1/PWM4 (io), 34 P0.9/RXD1/PWM6/EINT3 (io), 35 P0.10/CAP1.0 (io), 36 P1.23/PIPESTAT2 (io), 37 P0.11/CAP1.1/SCL1 (io), 38 P0.12/MAT1.0 (io), 39 P0.13/MAT1.1 (io), 40 P1.22/PIPESTAT1 (io), 41 P0.14/EINT1/SDA1 (io), 42 VSS (power), 43 VDD (power), 44 P1.21/PIPESTAT0 (io), 45 P0.15/EINT2 (io), 46 P0.16/EINT0/MAT0.2/CAP0.2 (io), 47 P0.17/CAP1.2/SCK1/MAT1.2 (io), 48 P1.20/TRACESYNC (io), 49 VBAT (power), 50 VSS (power), 51 VDD (power), 52 P1.30/TMS (io), 53 P0.18/CAP1.3/MISO1/MAT1.3 (io), 54 P0.19/MAT1.2/MOSI1/CAP1.2 (io), 55 P0.20/MAT1.3/SSEL1/EINT3 (io), 56 P1.29/TCK (io), 57 ~{RESET} (in), 58 P0.23 (io), 59 VSSA (power), 60 P1.28/TDI (io), 61 XTAL2, 62 XTAL1 (in), 63 VREF (in), 64 P1.27/TDO (io)

## LPC2132FHN64-01
designator U?
ARM7 16/32-Bit Microcontroller, 64KB Flash, 16KB RAM, Enhanced UART, ADC, Fast I/O and BOD, 64-Lead LQFP; Published: 17-Aug-2007; DatasheetVersion: rev.03, Sep-2006; PackageVersion: Mar-2004; PackageReference: SOT804-2; Publisher: Altium Limited; PackageDescription: 64-Pin Plastic Thermal Enhanced Very Thin Quad Flat Pack No-Lead, HVQFN64; Code_JEDEC: MO-220; ComponentLink1Description: Manufacturer Link; ComponentLink1URL: http://www.nxp.com/; ComponentLink2Description: Datasheet; ComponentLink2URL: http://www.standardics.nxp.com/products/lpc2000/datasheet/lpc2131.lpc2132.lpc2134.lpc2136.lpc2138.pdf
footprint SOT804-2_N (QFN, 64-Leads, Body 9x9mm, Pitch 0.5mm, IPC Medium Density)
footprint SOT804-2_L (QFN, 64-Leads, Body 9x9mm, Pitch 0.5mm, IPC High Density)
footprint SOT804-2_M (QFN, 64-Leads, Body 9x9mm, Pitch 0.5mm, IPC Low Density)
3D model LPC2132-FHN64 (64-Pin Plastic Thermal Enhanced Very Thin Quad Flat Pack No-Lead, HVQFN64)
pins: 1 P0.21/PWM5/CAP1.3 (io), 2 P0.22/CAP0.0/MAT0.0 (io), 3 RTXC1, 4 P1.19/TRACEPKT3 (io), 5 RTXC2, 6 VSS (power), 7 VDDA (power), 8 P1.18/TRACEPKT2 (io), 9 P0.25/AD0.4/AOUT (io), 10 P0.26/AD0.5 (io), 11 P0.27/AD0.0/CAP0.1/MAT0.1 (io), 12 P1.17/TRACEPKT1 (io), 13 P0.28/AD0.1/CAP0.2/MAT0.2 (io), 14 P0.29/AD0.2/CAP0.3/MAT0.3 (io), 15 P0.30/AD0.3/EINT3/CAP0.0 (io), 16 P1.16/TRACEPKT0 (io), 17 P0.31 (io), 18 VSS (power), 19 P0.0/TXD0/PWM1 (io), 20 P1.31/~{TRST} (io), 21 P0.1/RXD0/PWM3/EINT0 (io), 22 P0.2/SCL0/CAP0.0 (io), 23 VDD (power), 24 P1.26/RTCK (io), 25 VSS (power), 26 P0.3/SDA0/MAT0.0/EINT1 (io), 27 P0.4/SCK0/CAP0.1/AD0.6 (io), 28 P1.25/EXTIN0 (io), 29 P0.5/MISO0/MAT0.1/AD0.7 (io), 30 P0.6/MOSI0/CAP0.2 (io), 31 P0.7/SSEL0/PWM2/EINT2 (io), 32 P1.24/TRACECLK (io), 33 P0.8/TXD1/PWM4 (io), 34 P0.9/RXD1/PWM6/EINT3 (io), 35 P0.10/CAP1.0 (io), 36 P1.23/PIPESTAT2 (io), 37 P0.11/CAP1.1/SCL1 (io), 38 P0.12/MAT1.0 (io), 39 P0.13/MAT1.1 (io), 40 P1.22/PIPESTAT1 (io), 41 P0.14/EINT1/SDA1 (io), 42 VSS (power), 43 VDD (power), 44 P1.21/PIPESTAT0 (io), 45 P0.15/EINT2 (io), 46 P0.16/EINT0/MAT0.2/CAP0.2 (io), 47 P0.17/CAP1.2/SCK1/MAT1.2 (io), 48 P1.20/TRACESYNC (io), 49 VBAT (power), 50 VSS (power), 51 VDD (power), 52 P1.30/TMS (io), 53 P0.18/CAP1.3/MISO1/MAT1.3 (io), 54 P0.19/MAT1.2/MOSI1/CAP1.2 (io), 55 P0.20/MAT1.3/SSEL1/EINT3 (io), 56 P1.29/TCK (io), 57 ~{RESET} (in), 58 P0.23 (io), 59 VSSA (power), 60 P1.28/TDI (io), 61 XTAL2, 62 XTAL1 (in), 63 VREF (in), 64 P1.27/TDO (io)

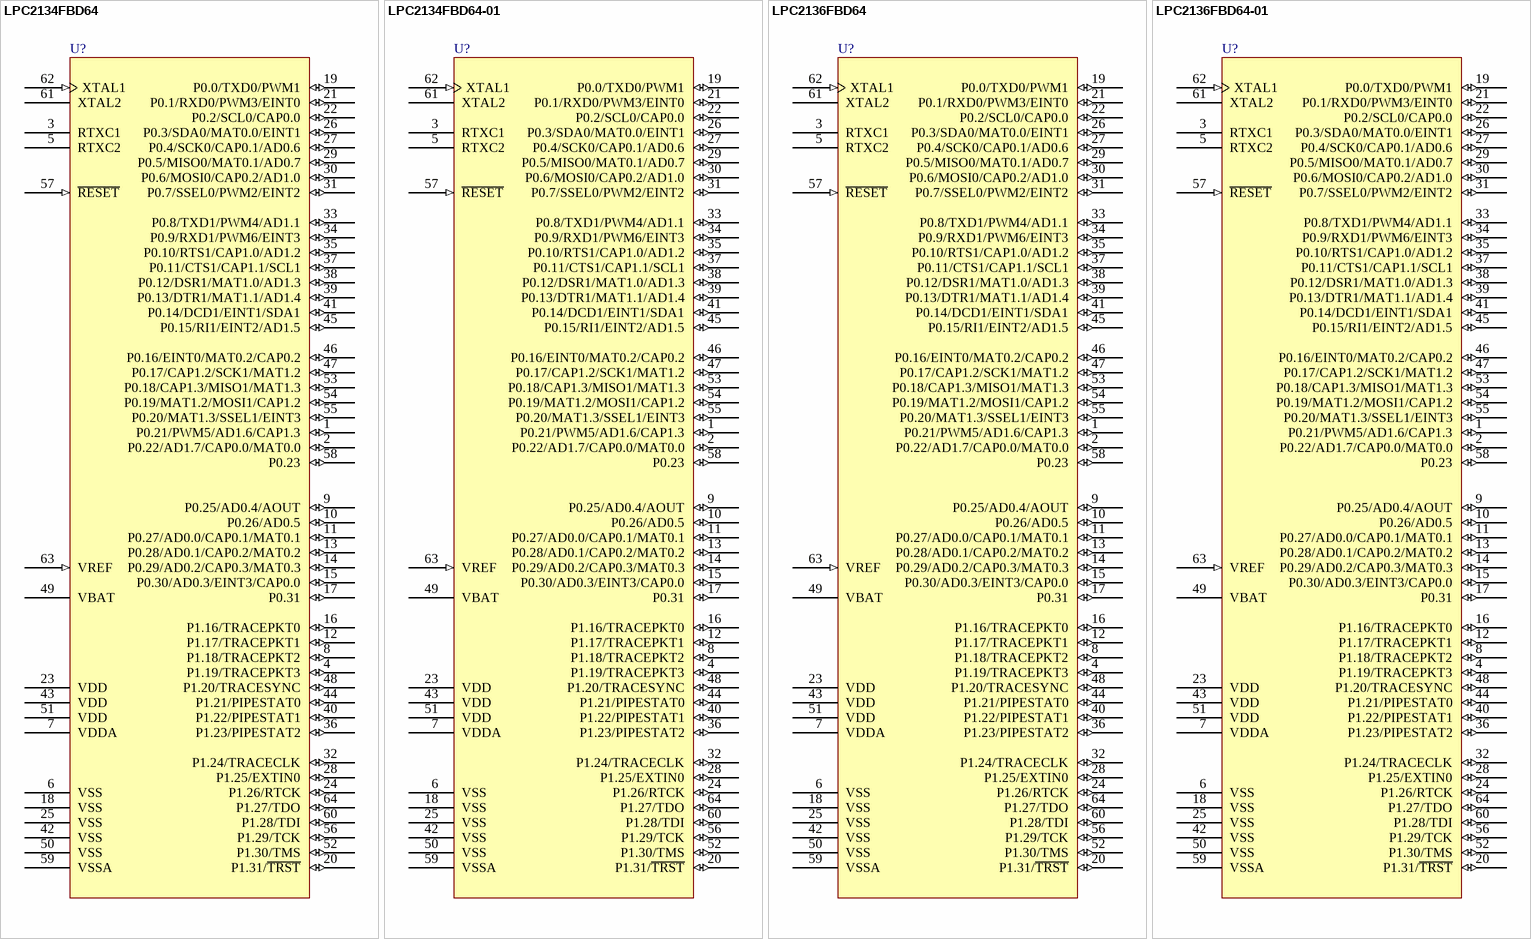
[diagram p7: symbols LPC2134FBD64 to LPC2136FBD64-01]

## LPC2134FBD64
designator U?
ARM7 16/32-Bit Microcontroller, 128KB Flash, 16KB RAM, 64-Lead LQFP; Code_IEC: 136E10; Published: 31-Jul-2006; DatasheetVersion: rev.03, Sep-2006; PackageVersion: Feb-2003; PackageReference: SOT314-2; Publisher: Altium Limited; PackageDescription: 64-Pin Plastic Low Profile Quad Flat Pack; Code_JEDEC: MS-026; ComponentLink1Description: Manufacturer Link; ComponentLink1URL: http://www.nxp.com/; ComponentLink2Description: Datasheet; ComponentLink2URL: http://www.standardics.nxp.com/products/lpc2000/datasheet/lpc2131.lpc2132.lpc2134.lpc2136.lpc2138.pdf
footprint SOT314-2_N (Thin QFP, 64-Leads, Body 10x10mm, Pitch 0.5mm, IPC Medium Density)
footprint SOT314-2_L (Thin QFP, 64-Leads, Body 10x10mm, Pitch 0.5mm, IPC High Density)
footprint SOT314-2_M (Thin QFP, 64-Leads, Body 10x10mm, Pitch 0.5mm, IPC Low Density)
3D model LPC2134-QFP64 (64-Pin Plastic Low Profile Quad Flat Pack)
pins: 1 P0.21/PWM5/AD1.6/CAP1.3 (io), 2 P0.22/AD1.7/CAP0.0/MAT0.0 (io), 3 RTXC1, 4 P1.19/TRACEPKT3 (io), 5 RTXC2, 6 VSS (power), 7 VDDA (power), 8 P1.18/TRACEPKT2 (io), 9 P0.25/AD0.4/AOUT (io), 10 P0.26/AD0.5 (io), 11 P0.27/AD0.0/CAP0.1/MAT0.1 (io), 12 P1.17/TRACEPKT1 (io), 13 P0.28/AD0.1/CAP0.2/MAT0.2 (io), 14 P0.29/AD0.2/CAP0.3/MAT0.3 (io), 15 P0.30/AD0.3/EINT3/CAP0.0 (io), 16 P1.16/TRACEPKT0 (io), 17 P0.31 (io), 18 VSS (power), 19 P0.0/TXD0/PWM1 (io), 20 P1.31/~{TRST} (io), 21 P0.1/RXD0/PWM3/EINT0 (io), 22 P0.2/SCL0/CAP0.0 (io), 23 VDD (power), 24 P1.26/RTCK (io), 25 VSS (power), 26 P0.3/SDA0/MAT0.0/EINT1 (io), 27 P0.4/SCK0/CAP0.1/AD0.6 (io), 28 P1.25/EXTIN0 (io), 29 P0.5/MISO0/MAT0.1/AD0.7 (io), 30 P0.6/MOSI0/CAP0.2/AD1.0 (io), 31 P0.7/SSEL0/PWM2/EINT2 (io), 32 P1.24/TRACECLK (io), 33 P0.8/TXD1/PWM4/AD1.1 (io), 34 P0.9/RXD1/PWM6/EINT3 (io), 35 P0.10/RTS1/CAP1.0/AD1.2 (io), 36 P1.23/PIPESTAT2 (io), 37 P0.11/CTS1/CAP1.1/SCL1 (io), 38 P0.12/DSR1/MAT1.0/AD1.3 (io), 39 P0.13/DTR1/MAT1.1/AD1.4 (io), 40 P1.22/PIPESTAT1 (io), 41 P0.14/DCD1/EINT1/SDA1 (io), 42 VSS (power), 43 VDD (power), 44 P1.21/PIPESTAT0 (io), 45 P0.15/RI1/EINT2/AD1.5 (io), 46 P0.16/EINT0/MAT0.2/CAP0.2 (io), 47 P0.17/CAP1.2/SCK1/MAT1.2 (io), 48 P1.20/TRACESYNC (io), 49 VBAT (power), 50 VSS (power), 51 VDD (power), 52 P1.30/TMS (io), 53 P0.18/CAP1.3/MISO1/MAT1.3 (io), 54 P0.19/MAT1.2/MOSI1/CAP1.2 (io), 55 P0.20/MAT1.3/SSEL1/EINT3 (io), 56 P1.29/TCK (io), 57 ~{RESET} (in), 58 P0.23 (io), 59 VSSA (power), 60 P1.28/TDI (io), 61 XTAL2, 62 XTAL1 (in), 63 VREF (in), 64 P1.27/TDO (io)

## LPC2134FBD64-01
designator U?
ARM7 16/32-Bit Microcontroller, 128KB Flash, 16KB RAM, Enhanced UART, ADC, Fast I/O and BOD, 64-Lead LQFP; Code_IEC: 136E10; Published: 17-Aug-2007; DatasheetVersion: rev.03, Sep-2006; PackageVersion: Feb-2003; PackageReference: SOT314-2; Publisher: Altium Limited; PackageDescription: 64-Pin Plastic Low Profile Quad Flat Pack; Code_JEDEC: MS-026; ComponentLink1Description: Manufacturer Link; ComponentLink1URL: http://www.nxp.com/; ComponentLink2Description: Datasheet; ComponentLink2URL: http://www.standardics.nxp.com/products/lpc2000/datasheet/lpc2131.lpc2132.lpc2134.lpc2136.lpc2138.pdf
footprint SOT314-2_N (Thin QFP, 64-Leads, Body 10x10mm, Pitch 0.5mm, IPC Medium Density)
footprint SOT314-2_L (Thin QFP, 64-Leads, Body 10x10mm, Pitch 0.5mm, IPC High Density)
footprint SOT314-2_M (Thin QFP, 64-Leads, Body 10x10mm, Pitch 0.5mm, IPC Low Density)
3D model LPC2134-QFP64 (64-Pin Plastic Low Profile Quad Flat Pack)
pins: 1 P0.21/PWM5/AD1.6/CAP1.3 (io), 2 P0.22/AD1.7/CAP0.0/MAT0.0 (io), 3 RTXC1, 4 P1.19/TRACEPKT3 (io), 5 RTXC2, 6 VSS (power), 7 VDDA (power), 8 P1.18/TRACEPKT2 (io), 9 P0.25/AD0.4/AOUT (io), 10 P0.26/AD0.5 (io), 11 P0.27/AD0.0/CAP0.1/MAT0.1 (io), 12 P1.17/TRACEPKT1 (io), 13 P0.28/AD0.1/CAP0.2/MAT0.2 (io), 14 P0.29/AD0.2/CAP0.3/MAT0.3 (io), 15 P0.30/AD0.3/EINT3/CAP0.0 (io), 16 P1.16/TRACEPKT0 (io), 17 P0.31 (io), 18 VSS (power), 19 P0.0/TXD0/PWM1 (io), 20 P1.31/~{TRST} (io), 21 P0.1/RXD0/PWM3/EINT0 (io), 22 P0.2/SCL0/CAP0.0 (io), 23 VDD (power), 24 P1.26/RTCK (io), 25 VSS (power), 26 P0.3/SDA0/MAT0.0/EINT1 (io), 27 P0.4/SCK0/CAP0.1/AD0.6 (io), 28 P1.25/EXTIN0 (io), 29 P0.5/MISO0/MAT0.1/AD0.7 (io), 30 P0.6/MOSI0/CAP0.2/AD1.0 (io), 31 P0.7/SSEL0/PWM2/EINT2 (io), 32 P1.24/TRACECLK (io), 33 P0.8/TXD1/PWM4/AD1.1 (io), 34 P0.9/RXD1/PWM6/EINT3 (io), 35 P0.10/RTS1/CAP1.0/AD1.2 (io), 36 P1.23/PIPESTAT2 (io), 37 P0.11/CTS1/CAP1.1/SCL1 (io), 38 P0.12/DSR1/MAT1.0/AD1.3 (io), 39 P0.13/DTR1/MAT1.1/AD1.4 (io), 40 P1.22/PIPESTAT1 (io), 41 P0.14/DCD1/EINT1/SDA1 (io), 42 VSS (power), 43 VDD (power), 44 P1.21/PIPESTAT0 (io), 45 P0.15/RI1/EINT2/AD1.5 (io), 46 P0.16/EINT0/MAT0.2/CAP0.2 (io), 47 P0.17/CAP1.2/SCK1/MAT1.2 (io), 48 P1.20/TRACESYNC (io), 49 VBAT (power), 50 VSS (power), 51 VDD (power), 52 P1.30/TMS (io), 53 P0.18/CAP1.3/MISO1/MAT1.3 (io), 54 P0.19/MAT1.2/MOSI1/CAP1.2 (io), 55 P0.20/MAT1.3/SSEL1/EINT3 (io), 56 P1.29/TCK (io), 57 ~{RESET} (in), 58 P0.23 (io), 59 VSSA (power), 60 P1.28/TDI (io), 61 XTAL2, 62 XTAL1 (in), 63 VREF (in), 64 P1.27/TDO (io)

## LPC2136FBD64
designator U?
ARM7 16/32-Bit Microcontroller, 256KB Flash, 32KB RAM, 64-Lead LQFP; Code_IEC: 136E10; Published: 31-Jul-2006; DatasheetVersion: rev.03, Sep-2006; PackageVersion: Feb-2003; PackageReference: SOT314-2; Publisher: Altium Limited; PackageDescription: 64-Pin Plastic Low Profile Quad Flat Pack; Code_JEDEC: MS-026; ComponentLink1Description: Manufacturer Link; ComponentLink1URL: http://www.nxp.com/; ComponentLink2Description: Datasheet; ComponentLink2URL: http://www.standardics.nxp.com/products/lpc2000/datasheet/lpc2131.lpc2132.lpc2134.lpc2136.lpc2138.pdf
footprint SOT314-2_N (Thin QFP, 64-Leads, Body 10x10mm, Pitch 0.5mm, IPC Medium Density)
footprint SOT314-2_L (Thin QFP, 64-Leads, Body 10x10mm, Pitch 0.5mm, IPC High Density)
footprint SOT314-2_M (Thin QFP, 64-Leads, Body 10x10mm, Pitch 0.5mm, IPC Low Density)
3D model LPC2136-QFP64 (64-Pin Plastic Low Profile Quad Flat Pack)
pins: 1 P0.21/PWM5/AD1.6/CAP1.3 (io), 2 P0.22/AD1.7/CAP0.0/MAT0.0 (io), 3 RTXC1, 4 P1.19/TRACEPKT3 (io), 5 RTXC2, 6 VSS (power), 7 VDDA (power), 8 P1.18/TRACEPKT2 (io), 9 P0.25/AD0.4/AOUT (io), 10 P0.26/AD0.5 (io), 11 P0.27/AD0.0/CAP0.1/MAT0.1 (io), 12 P1.17/TRACEPKT1 (io), 13 P0.28/AD0.1/CAP0.2/MAT0.2 (io), 14 P0.29/AD0.2/CAP0.3/MAT0.3 (io), 15 P0.30/AD0.3/EINT3/CAP0.0 (io), 16 P1.16/TRACEPKT0 (io), 17 P0.31 (io), 18 VSS (power), 19 P0.0/TXD0/PWM1 (io), 20 P1.31/~{TRST} (io), 21 P0.1/RXD0/PWM3/EINT0 (io), 22 P0.2/SCL0/CAP0.0 (io), 23 VDD (power), 24 P1.26/RTCK (io), 25 VSS (power), 26 P0.3/SDA0/MAT0.0/EINT1 (io), 27 P0.4/SCK0/CAP0.1/AD0.6 (io), 28 P1.25/EXTIN0 (io), 29 P0.5/MISO0/MAT0.1/AD0.7 (io), 30 P0.6/MOSI0/CAP0.2/AD1.0 (io), 31 P0.7/SSEL0/PWM2/EINT2 (io), 32 P1.24/TRACECLK (io), 33 P0.8/TXD1/PWM4/AD1.1 (io), 34 P0.9/RXD1/PWM6/EINT3 (io), 35 P0.10/RTS1/CAP1.0/AD1.2 (io), 36 P1.23/PIPESTAT2 (io), 37 P0.11/CTS1/CAP1.1/SCL1 (io), 38 P0.12/DSR1/MAT1.0/AD1.3 (io), 39 P0.13/DTR1/MAT1.1/AD1.4 (io), 40 P1.22/PIPESTAT1 (io), 41 P0.14/DCD1/EINT1/SDA1 (io), 42 VSS (power), 43 VDD (power), 44 P1.21/PIPESTAT0 (io), 45 P0.15/RI1/EINT2/AD1.5 (io), 46 P0.16/EINT0/MAT0.2/CAP0.2 (io), 47 P0.17/CAP1.2/SCK1/MAT1.2 (io), 48 P1.20/TRACESYNC (io), 49 VBAT (power), 50 VSS (power), 51 VDD (power), 52 P1.30/TMS (io), 53 P0.18/CAP1.3/MISO1/MAT1.3 (io), 54 P0.19/MAT1.2/MOSI1/CAP1.2 (io), 55 P0.20/MAT1.3/SSEL1/EINT3 (io), 56 P1.29/TCK (io), 57 ~{RESET} (in), 58 P0.23 (io), 59 VSSA (power), 60 P1.28/TDI (io), 61 XTAL2, 62 XTAL1 (in), 63 VREF (in), 64 P1.27/TDO (io)

## LPC2136FBD64-01
designator U?
ARM7 16/32-Bit Microcontroller, 256KB Flash, 32KB RAM, Enhanced UART, ADC, Fast I/O and BOD, 64-Lead LQFP; Code_IEC: 136E10; Published: 17-Aug-2007; DatasheetVersion: rev.03, Sep-2006; PackageVersion: Feb-2003; PackageReference: SOT314-2; Publisher: Altium Limited; PackageDescription: 64-Pin Plastic Low Profile Quad Flat Pack; Code_JEDEC: MS-026; ComponentLink1Description: Manufacturer Link; ComponentLink1URL: http://www.nxp.com/; ComponentLink2Description: Datasheet; ComponentLink2URL: http://www.standardics.nxp.com/products/lpc2000/datasheet/lpc2131.lpc2132.lpc2134.lpc2136.lpc2138.pdf
footprint SOT314-2_N (Thin QFP, 64-Leads, Body 10x10mm, Pitch 0.5mm, IPC Medium Density)
footprint SOT314-2_L (Thin QFP, 64-Leads, Body 10x10mm, Pitch 0.5mm, IPC High Density)
footprint SOT314-2_M (Thin QFP, 64-Leads, Body 10x10mm, Pitch 0.5mm, IPC Low Density)
3D model LPC2136-QFP64 (64-Pin Plastic Low Profile Quad Flat Pack)
pins: 1 P0.21/PWM5/AD1.6/CAP1.3 (io), 2 P0.22/AD1.7/CAP0.0/MAT0.0 (io), 3 RTXC1, 4 P1.19/TRACEPKT3 (io), 5 RTXC2, 6 VSS (power), 7 VDDA (power), 8 P1.18/TRACEPKT2 (io), 9 P0.25/AD0.4/AOUT (io), 10 P0.26/AD0.5 (io), 11 P0.27/AD0.0/CAP0.1/MAT0.1 (io), 12 P1.17/TRACEPKT1 (io), 13 P0.28/AD0.1/CAP0.2/MAT0.2 (io), 14 P0.29/AD0.2/CAP0.3/MAT0.3 (io), 15 P0.30/AD0.3/EINT3/CAP0.0 (io), 16 P1.16/TRACEPKT0 (io), 17 P0.31 (io), 18 VSS (power), 19 P0.0/TXD0/PWM1 (io), 20 P1.31/~{TRST} (io), 21 P0.1/RXD0/PWM3/EINT0 (io), 22 P0.2/SCL0/CAP0.0 (io), 23 VDD (power), 24 P1.26/RTCK (io), 25 VSS (power), 26 P0.3/SDA0/MAT0.0/EINT1 (io), 27 P0.4/SCK0/CAP0.1/AD0.6 (io), 28 P1.25/EXTIN0 (io), 29 P0.5/MISO0/MAT0.1/AD0.7 (io), 30 P0.6/MOSI0/CAP0.2/AD1.0 (io), 31 P0.7/SSEL0/PWM2/EINT2 (io), 32 P1.24/TRACECLK (io), 33 P0.8/TXD1/PWM4/AD1.1 (io), 34 P0.9/RXD1/PWM6/EINT3 (io), 35 P0.10/RTS1/CAP1.0/AD1.2 (io), 36 P1.23/PIPESTAT2 (io), 37 P0.11/CTS1/CAP1.1/SCL1 (io), 38 P0.12/DSR1/MAT1.0/AD1.3 (io), 39 P0.13/DTR1/MAT1.1/AD1.4 (io), 40 P1.22/PIPESTAT1 (io), 41 P0.14/DCD1/EINT1/SDA1 (io), 42 VSS (power), 43 VDD (power), 44 P1.21/PIPESTAT0 (io), 45 P0.15/RI1/EINT2/AD1.5 (io), 46 P0.16/EINT0/MAT0.2/CAP0.2 (io), 47 P0.17/CAP1.2/SCK1/MAT1.2 (io), 48 P1.20/TRACESYNC (io), 49 VBAT (power), 50 VSS (power), 51 VDD (power), 52 P1.30/TMS (io), 53 P0.18/CAP1.3/MISO1/MAT1.3 (io), 54 P0.19/MAT1.2/MOSI1/CAP1.2 (io), 55 P0.20/MAT1.3/SSEL1/EINT3 (io), 56 P1.29/TCK (io), 57 ~{RESET} (in), 58 P0.23 (io), 59 VSSA (power), 60 P1.28/TDI (io), 61 XTAL2, 62 XTAL1 (in), 63 VREF (in), 64 P1.27/TDO (io)

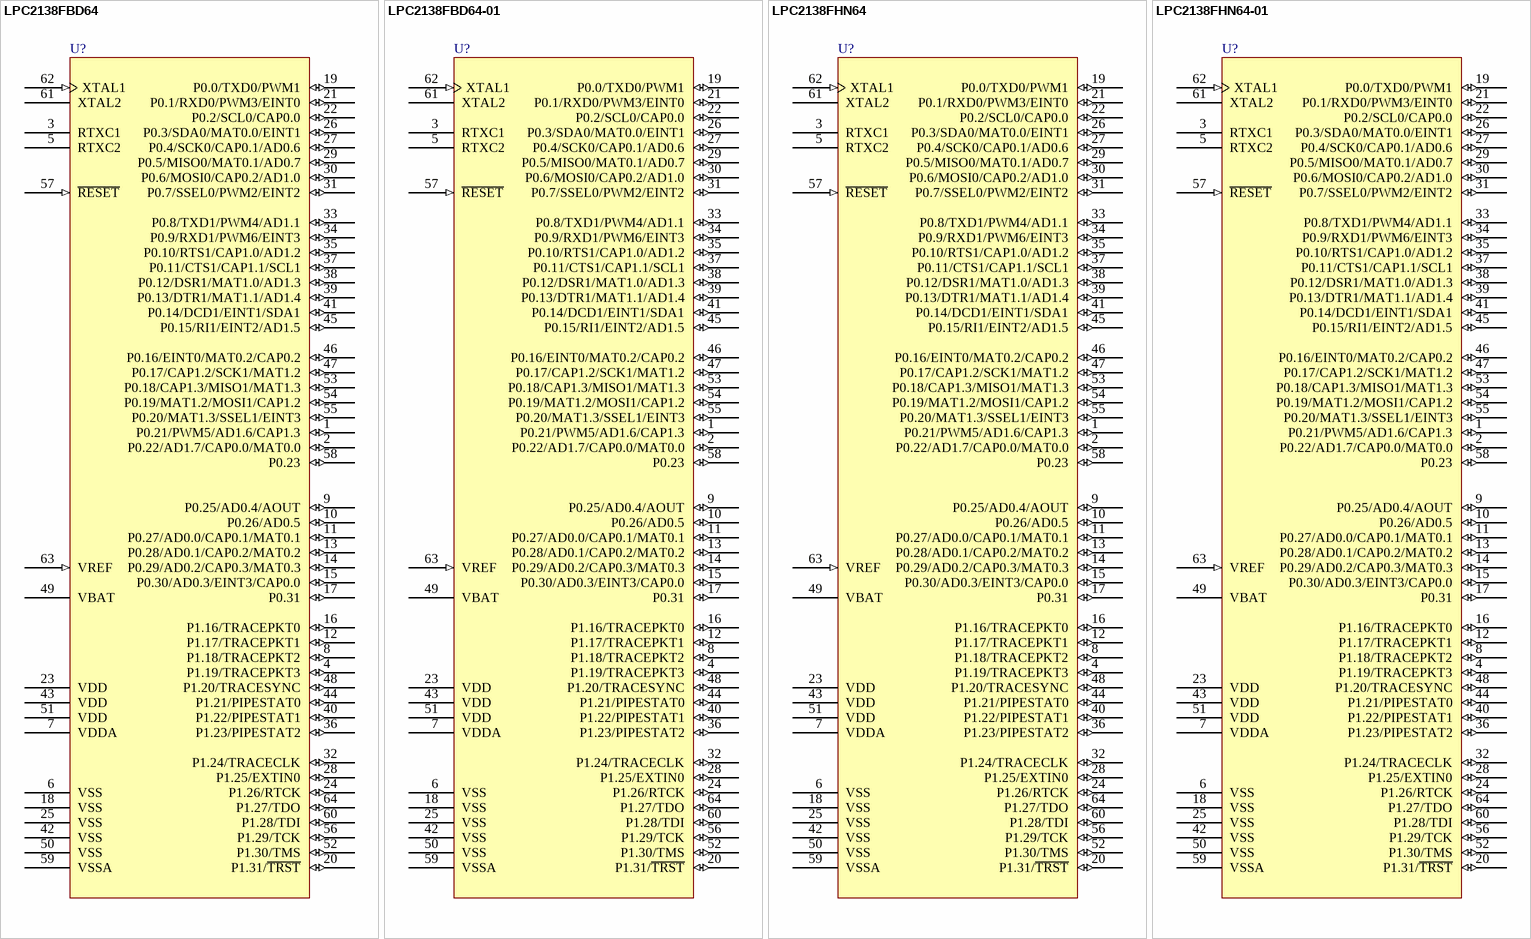
[diagram p8: symbols LPC2138FBD64 to LPC2138FHN64-01]

## LPC2138FBD64
designator U?
ARM7 16/32-Bit Microcontroller, 512KB Flash, 32KB RAM, 64-Lead LQFP; Code_IEC: 136E10; Published: 31-Jul-2006; DatasheetVersion: rev.03, Sep-2006; PackageVersion: Feb-2003; PackageReference: SOT314-2; Publisher: Altium Limited; PackageDescription: 64-Pin Plastic Low Profile Quad Flat Pack; Code_JEDEC: MS-026; ComponentLink1Description: Manufacturer Link; ComponentLink1URL: http://www.nxp.com/; ComponentLink2Description: Datasheet; ComponentLink2URL: http://www.standardics.nxp.com/products/lpc2000/datasheet/lpc2131.lpc2132.lpc2134.lpc2136.lpc2138.pdf
footprint SOT314-2_N (Thin QFP, 64-Leads, Body 10x10mm, Pitch 0.5mm, IPC Medium Density)
footprint SOT314-2_L (Thin QFP, 64-Leads, Body 10x10mm, Pitch 0.5mm, IPC High Density)
footprint SOT314-2_M (Thin QFP, 64-Leads, Body 10x10mm, Pitch 0.5mm, IPC Low Density)
3D model LPC2138-QFP64 (64-Pin Plastic Low Profile Quad Flat Pack)
pins: 1 P0.21/PWM5/AD1.6/CAP1.3 (io), 2 P0.22/AD1.7/CAP0.0/MAT0.0 (io), 3 RTXC1, 4 P1.19/TRACEPKT3 (io), 5 RTXC2, 6 VSS (power), 7 VDDA (power), 8 P1.18/TRACEPKT2 (io), 9 P0.25/AD0.4/AOUT (io), 10 P0.26/AD0.5 (io), 11 P0.27/AD0.0/CAP0.1/MAT0.1 (io), 12 P1.17/TRACEPKT1 (io), 13 P0.28/AD0.1/CAP0.2/MAT0.2 (io), 14 P0.29/AD0.2/CAP0.3/MAT0.3 (io), 15 P0.30/AD0.3/EINT3/CAP0.0 (io), 16 P1.16/TRACEPKT0 (io), 17 P0.31 (io), 18 VSS (power), 19 P0.0/TXD0/PWM1 (io), 20 P1.31/~{TRST} (io), 21 P0.1/RXD0/PWM3/EINT0 (io), 22 P0.2/SCL0/CAP0.0 (io), 23 VDD (power), 24 P1.26/RTCK (io), 25 VSS (power), 26 P0.3/SDA0/MAT0.0/EINT1 (io), 27 P0.4/SCK0/CAP0.1/AD0.6 (io), 28 P1.25/EXTIN0 (io), 29 P0.5/MISO0/MAT0.1/AD0.7 (io), 30 P0.6/MOSI0/CAP0.2/AD1.0 (io), 31 P0.7/SSEL0/PWM2/EINT2 (io), 32 P1.24/TRACECLK (io), 33 P0.8/TXD1/PWM4/AD1.1 (io), 34 P0.9/RXD1/PWM6/EINT3 (io), 35 P0.10/RTS1/CAP1.0/AD1.2 (io), 36 P1.23/PIPESTAT2 (io), 37 P0.11/CTS1/CAP1.1/SCL1 (io), 38 P0.12/DSR1/MAT1.0/AD1.3 (io), 39 P0.13/DTR1/MAT1.1/AD1.4 (io), 40 P1.22/PIPESTAT1 (io), 41 P0.14/DCD1/EINT1/SDA1 (io), 42 VSS (power), 43 VDD (power), 44 P1.21/PIPESTAT0 (io), 45 P0.15/RI1/EINT2/AD1.5 (io), 46 P0.16/EINT0/MAT0.2/CAP0.2 (io), 47 P0.17/CAP1.2/SCK1/MAT1.2 (io), 48 P1.20/TRACESYNC (io), 49 VBAT (power), 50 VSS (power), 51 VDD (power), 52 P1.30/TMS (io), 53 P0.18/CAP1.3/MISO1/MAT1.3 (io), 54 P0.19/MAT1.2/MOSI1/CAP1.2 (io), 55 P0.20/MAT1.3/SSEL1/EINT3 (io), 56 P1.29/TCK (io), 57 ~{RESET} (in), 58 P0.23 (io), 59 VSSA (power), 60 P1.28/TDI (io), 61 XTAL2, 62 XTAL1 (in), 63 VREF (in), 64 P1.27/TDO (io)

## LPC2138FBD64-01
designator U?
ARM7 16/32-Bit Microcontroller, 512KB Flash, 32KB RAM, Enhanced UART, ADC, Fast I/O and BOD, 64-Lead LQFP; Code_IEC: 136E10; Published: 17-Aug-2007; DatasheetVersion: rev.03, Sep-2006; PackageVersion: Feb-2003; PackageReference: SOT314-2; Publisher: Altium Limited; PackageDescription: 64-Pin Plastic Low Profile Quad Flat Pack; Code_JEDEC: MS-026; ComponentLink1Description: Manufacturer Link; ComponentLink1URL: http://www.nxp.com/; ComponentLink2Description: Datasheet; ComponentLink2URL: http://www.standardics.nxp.com/products/lpc2000/datasheet/lpc2131.lpc2132.lpc2134.lpc2136.lpc2138.pdf
footprint SOT314-2_N (Thin QFP, 64-Leads, Body 10x10mm, Pitch 0.5mm, IPC Medium Density)
footprint SOT314-2_L (Thin QFP, 64-Leads, Body 10x10mm, Pitch 0.5mm, IPC High Density)
footprint SOT314-2_M (Thin QFP, 64-Leads, Body 10x10mm, Pitch 0.5mm, IPC Low Density)
3D model LPC2138-QFP64 (64-Pin Plastic Low Profile Quad Flat Pack)
pins: 1 P0.21/PWM5/AD1.6/CAP1.3 (io), 2 P0.22/AD1.7/CAP0.0/MAT0.0 (io), 3 RTXC1, 4 P1.19/TRACEPKT3 (io), 5 RTXC2, 6 VSS (power), 7 VDDA (power), 8 P1.18/TRACEPKT2 (io), 9 P0.25/AD0.4/AOUT (io), 10 P0.26/AD0.5 (io), 11 P0.27/AD0.0/CAP0.1/MAT0.1 (io), 12 P1.17/TRACEPKT1 (io), 13 P0.28/AD0.1/CAP0.2/MAT0.2 (io), 14 P0.29/AD0.2/CAP0.3/MAT0.3 (io), 15 P0.30/AD0.3/EINT3/CAP0.0 (io), 16 P1.16/TRACEPKT0 (io), 17 P0.31 (io), 18 VSS (power), 19 P0.0/TXD0/PWM1 (io), 20 P1.31/~{TRST} (io), 21 P0.1/RXD0/PWM3/EINT0 (io), 22 P0.2/SCL0/CAP0.0 (io), 23 VDD (power), 24 P1.26/RTCK (io), 25 VSS (power), 26 P0.3/SDA0/MAT0.0/EINT1 (io), 27 P0.4/SCK0/CAP0.1/AD0.6 (io), 28 P1.25/EXTIN0 (io), 29 P0.5/MISO0/MAT0.1/AD0.7 (io), 30 P0.6/MOSI0/CAP0.2/AD1.0 (io), 31 P0.7/SSEL0/PWM2/EINT2 (io), 32 P1.24/TRACECLK (io), 33 P0.8/TXD1/PWM4/AD1.1 (io), 34 P0.9/RXD1/PWM6/EINT3 (io), 35 P0.10/RTS1/CAP1.0/AD1.2 (io), 36 P1.23/PIPESTAT2 (io), 37 P0.11/CTS1/CAP1.1/SCL1 (io), 38 P0.12/DSR1/MAT1.0/AD1.3 (io), 39 P0.13/DTR1/MAT1.1/AD1.4 (io), 40 P1.22/PIPESTAT1 (io), 41 P0.14/DCD1/EINT1/SDA1 (io), 42 VSS (power), 43 VDD (power), 44 P1.21/PIPESTAT0 (io), 45 P0.15/RI1/EINT2/AD1.5 (io), 46 P0.16/EINT0/MAT0.2/CAP0.2 (io), 47 P0.17/CAP1.2/SCK1/MAT1.2 (io), 48 P1.20/TRACESYNC (io), 49 VBAT (power), 50 VSS (power), 51 VDD (power), 52 P1.30/TMS (io), 53 P0.18/CAP1.3/MISO1/MAT1.3 (io), 54 P0.19/MAT1.2/MOSI1/CAP1.2 (io), 55 P0.20/MAT1.3/SSEL1/EINT3 (io), 56 P1.29/TCK (io), 57 ~{RESET} (in), 58 P0.23 (io), 59 VSSA (power), 60 P1.28/TDI (io), 61 XTAL2, 62 XTAL1 (in), 63 VREF (in), 64 P1.27/TDO (io)

## LPC2138FHN64
designator U?
ARM7 16/32-Bit Microcontroller, 512KB Flash, 32KB RAM, 64-Lead LQFP; Published: 17-Aug-2007; DatasheetVersion: rev.03, Sep-2006; PackageVersion: Mar-2004; PackageReference: SOT804-2; Publisher: Altium Limited; PackageDescription: 64-Pin Plastic Thermal Enhanced Very Thin Quad Flat Pack No-Lead, HVQFN64; Code_JEDEC: MO-220; ComponentLink1Description: Manufacturer Link; ComponentLink1URL: http://www.nxp.com/; ComponentLink2Description: Datasheet; ComponentLink2URL: http://www.standardics.nxp.com/products/lpc2000/datasheet/lpc2131.lpc2132.lpc2134.lpc2136.lpc2138.pdf
footprint SOT804-2_N (QFN, 64-Leads, Body 9x9mm, Pitch 0.5mm, IPC Medium Density)
footprint SOT804-2_L (QFN, 64-Leads, Body 9x9mm, Pitch 0.5mm, IPC High Density)
footprint SOT804-2_M (QFN, 64-Leads, Body 9x9mm, Pitch 0.5mm, IPC Low Density)
3D model LPC2138-FHN64 (64-Pin Plastic Thermal Enhanced Very Thin Quad Flat Pack No-Lead, HVQFN64)
pins: 1 P0.21/PWM5/AD1.6/CAP1.3 (io), 2 P0.22/AD1.7/CAP0.0/MAT0.0 (io), 3 RTXC1, 4 P1.19/TRACEPKT3 (io), 5 RTXC2, 6 VSS (power), 7 VDDA (power), 8 P1.18/TRACEPKT2 (io), 9 P0.25/AD0.4/AOUT (io), 10 P0.26/AD0.5 (io), 11 P0.27/AD0.0/CAP0.1/MAT0.1 (io), 12 P1.17/TRACEPKT1 (io), 13 P0.28/AD0.1/CAP0.2/MAT0.2 (io), 14 P0.29/AD0.2/CAP0.3/MAT0.3 (io), 15 P0.30/AD0.3/EINT3/CAP0.0 (io), 16 P1.16/TRACEPKT0 (io), 17 P0.31 (io), 18 VSS (power), 19 P0.0/TXD0/PWM1 (io), 20 P1.31/~{TRST} (io), 21 P0.1/RXD0/PWM3/EINT0 (io), 22 P0.2/SCL0/CAP0.0 (io), 23 VDD (power), 24 P1.26/RTCK (io), 25 VSS (power), 26 P0.3/SDA0/MAT0.0/EINT1 (io), 27 P0.4/SCK0/CAP0.1/AD0.6 (io), 28 P1.25/EXTIN0 (io), 29 P0.5/MISO0/MAT0.1/AD0.7 (io), 30 P0.6/MOSI0/CAP0.2/AD1.0 (io), 31 P0.7/SSEL0/PWM2/EINT2 (io), 32 P1.24/TRACECLK (io), 33 P0.8/TXD1/PWM4/AD1.1 (io), 34 P0.9/RXD1/PWM6/EINT3 (io), 35 P0.10/RTS1/CAP1.0/AD1.2 (io), 36 P1.23/PIPESTAT2 (io), 37 P0.11/CTS1/CAP1.1/SCL1 (io), 38 P0.12/DSR1/MAT1.0/AD1.3 (io), 39 P0.13/DTR1/MAT1.1/AD1.4 (io), 40 P1.22/PIPESTAT1 (io), 41 P0.14/DCD1/EINT1/SDA1 (io), 42 VSS (power), 43 VDD (power), 44 P1.21/PIPESTAT0 (io), 45 P0.15/RI1/EINT2/AD1.5 (io), 46 P0.16/EINT0/MAT0.2/CAP0.2 (io), 47 P0.17/CAP1.2/SCK1/MAT1.2 (io), 48 P1.20/TRACESYNC (io), 49 VBAT (power), 50 VSS (power), 51 VDD (power), 52 P1.30/TMS (io), 53 P0.18/CAP1.3/MISO1/MAT1.3 (io), 54 P0.19/MAT1.2/MOSI1/CAP1.2 (io), 55 P0.20/MAT1.3/SSEL1/EINT3 (io), 56 P1.29/TCK (io), 57 ~{RESET} (in), 58 P0.23 (io), 59 VSSA (power), 60 P1.28/TDI (io), 61 XTAL2, 62 XTAL1 (in), 63 VREF (in), 64 P1.27/TDO (io)

## LPC2138FHN64-01
designator U?
ARM7 16/32-Bit Microcontroller, 512KB Flash, 32KB RAM, Enhanced UART, ADC, Fast I/O and BOD, 64-Lead LQFP; Published: 17-Aug-2007; DatasheetVersion: rev.03, Sep-2006; PackageVersion: Mar-2004; PackageReference: SOT804-2; Publisher: Altium Limited; PackageDescription: 64-Pin Plastic Thermal Enhanced Very Thin Quad Flat Pack No-Lead, HVQFN64; Code_JEDEC: MO-220; ComponentLink1Description: Manufacturer Link; ComponentLink1URL: http://www.nxp.com/; ComponentLink2Description: Datasheet; ComponentLink2URL: http://www.standardics.nxp.com/products/lpc2000/datasheet/lpc2131.lpc2132.lpc2134.lpc2136.lpc2138.pdf
footprint SOT804-2_N (QFN, 64-Leads, Body 9x9mm, Pitch 0.5mm, IPC Medium Density)
footprint SOT804-2_L (QFN, 64-Leads, Body 9x9mm, Pitch 0.5mm, IPC High Density)
footprint SOT804-2_M (QFN, 64-Leads, Body 9x9mm, Pitch 0.5mm, IPC Low Density)
3D model LPC2138-FHN64 (64-Pin Plastic Thermal Enhanced Very Thin Quad Flat Pack No-Lead, HVQFN64)
pins: 1 P0.21/PWM5/AD1.6/CAP1.3 (io), 2 P0.22/AD1.7/CAP0.0/MAT0.0 (io), 3 RTXC1, 4 P1.19/TRACEPKT3 (io), 5 RTXC2, 6 VSS (power), 7 VDDA (power), 8 P1.18/TRACEPKT2 (io), 9 P0.25/AD0.4/AOUT (io), 10 P0.26/AD0.5 (io), 11 P0.27/AD0.0/CAP0.1/MAT0.1 (io), 12 P1.17/TRACEPKT1 (io), 13 P0.28/AD0.1/CAP0.2/MAT0.2 (io), 14 P0.29/AD0.2/CAP0.3/MAT0.3 (io), 15 P0.30/AD0.3/EINT3/CAP0.0 (io), 16 P1.16/TRACEPKT0 (io), 17 P0.31 (io), 18 VSS (power), 19 P0.0/TXD0/PWM1 (io), 20 P1.31/~{TRST} (io), 21 P0.1/RXD0/PWM3/EINT0 (io), 22 P0.2/SCL0/CAP0.0 (io), 23 VDD (power), 24 P1.26/RTCK (io), 25 VSS (power), 26 P0.3/SDA0/MAT0.0/EINT1 (io), 27 P0.4/SCK0/CAP0.1/AD0.6 (io), 28 P1.25/EXTIN0 (io), 29 P0.5/MISO0/MAT0.1/AD0.7 (io), 30 P0.6/MOSI0/CAP0.2/AD1.0 (io), 31 P0.7/SSEL0/PWM2/EINT2 (io), 32 P1.24/TRACECLK (io), 33 P0.8/TXD1/PWM4/AD1.1 (io), 34 P0.9/RXD1/PWM6/EINT3 (io), 35 P0.10/RTS1/CAP1.0/AD1.2 (io), 36 P1.23/PIPESTAT2 (io), 37 P0.11/CTS1/CAP1.1/SCL1 (io), 38 P0.12/DSR1/MAT1.0/AD1.3 (io), 39 P0.13/DTR1/MAT1.1/AD1.4 (io), 40 P1.22/PIPESTAT1 (io), 41 P0.14/DCD1/EINT1/SDA1 (io), 42 VSS (power), 43 VDD (power), 44 P1.21/PIPESTAT0 (io), 45 P0.15/RI1/EINT2/AD1.5 (io), 46 P0.16/EINT0/MAT0.2/CAP0.2 (io), 47 P0.17/CAP1.2/SCK1/MAT1.2 (io), 48 P1.20/TRACESYNC (io), 49 VBAT (power), 50 VSS (power), 51 VDD (power), 52 P1.30/TMS (io), 53 P0.18/CAP1.3/MISO1/MAT1.3 (io), 54 P0.19/MAT1.2/MOSI1/CAP1.2 (io), 55 P0.20/MAT1.3/SSEL1/EINT3 (io), 56 P1.29/TCK (io), 57 ~{RESET} (in), 58 P0.23 (io), 59 VSSA (power), 60 P1.28/TDI (io), 61 XTAL2, 62 XTAL1 (in), 63 VREF (in), 64 P1.27/TDO (io)

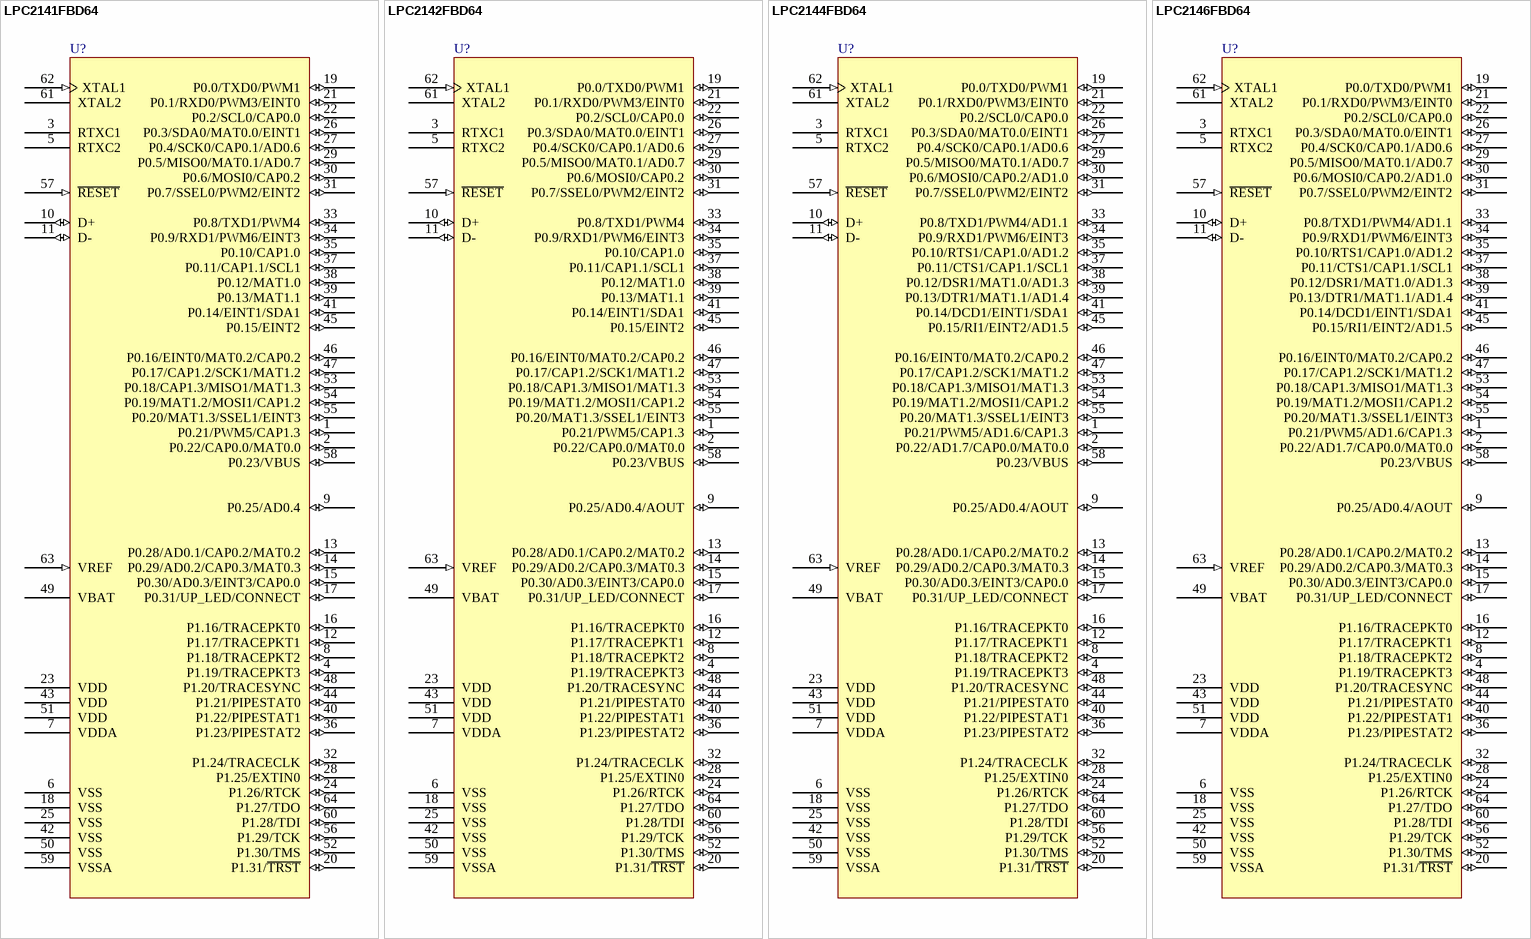
[diagram p9: symbols LPC2141FBD64 to LPC2146FBD64]

## LPC2141FBD64
designator U?
ARM7 16/32-Bit Microcontroller, 32KB Flash, 8KB RAM, 2KB USB RAM, 64-Lead LQFP; Code_IEC: 136E10; Published: 31-Jul-2006; DatasheetVersion: rev.02, Aug-2006; PackageVersion: Feb-2003; PackageReference: SOT314-2; Publisher: Altium Limited; PackageDescription: 64-Pin Plastic Low Profile Quad Flat Pack; Code_JEDEC: MS-026; ComponentLink1Description: Manufacturer Link; ComponentLink1URL: http://www.nxp.com/; ComponentLink2Description: Datasheet; ComponentLink2URL: http://www.standardics.nxp.com/products/lpc2000/datasheet/lpc2141.lpc2142.lpc2144.lpc2146.lpc2148.pdf
footprint SOT314-2_N (Thin QFP, 64-Leads, Body 10x10mm, Pitch 0.5mm, IPC Medium Density)
footprint SOT314-2_L (Thin QFP, 64-Leads, Body 10x10mm, Pitch 0.5mm, IPC High Density)
footprint SOT314-2_M (Thin QFP, 64-Leads, Body 10x10mm, Pitch 0.5mm, IPC Low Density)
3D model LPC2141-QFP64 (64-Pin Plastic Low Profile Quad Flat Pack)
pins: 1 P0.21/PWM5/CAP1.3 (io), 2 P0.22/CAP0.0/MAT0.0 (io), 3 RTXC1, 4 P1.19/TRACEPKT3 (io), 5 RTXC2, 6 VSS (power), 7 VDDA (power), 8 P1.18/TRACEPKT2 (io), 9 P0.25/AD0.4 (io), 10 D+ (io), 11 D- (io), 12 P1.17/TRACEPKT1 (io), 13 P0.28/AD0.1/CAP0.2/MAT0.2 (io), 14 P0.29/AD0.2/CAP0.3/MAT0.3 (io), 15 P0.30/AD0.3/EINT3/CAP0.0 (io), 16 P1.16/TRACEPKT0 (io), 17 P0.31/UP_LED/CONNECT (io), 18 VSS (power), 19 P0.0/TXD0/PWM1 (io), 20 P1.31/~{TRST} (io), 21 P0.1/RXD0/PWM3/EINT0 (io), 22 P0.2/SCL0/CAP0.0 (io), 23 VDD (power), 24 P1.26/RTCK (io), 25 VSS (power), 26 P0.3/SDA0/MAT0.0/EINT1 (io), 27 P0.4/SCK0/CAP0.1/AD0.6 (io), 28 P1.25/EXTIN0 (io), 29 P0.5/MISO0/MAT0.1/AD0.7 (io), 30 P0.6/MOSI0/CAP0.2 (io), 31 P0.7/SSEL0/PWM2/EINT2 (io), 32 P1.24/TRACECLK (io), 33 P0.8/TXD1/PWM4 (io), 34 P0.9/RXD1/PWM6/EINT3 (io), 35 P0.10/CAP1.0 (io), 36 P1.23/PIPESTAT2 (io), 37 P0.11/CAP1.1/SCL1 (io), 38 P0.12/MAT1.0 (io), 39 P0.13/MAT1.1 (io), 40 P1.22/PIPESTAT1 (io), 41 P0.14/EINT1/SDA1 (io), 42 VSS (power), 43 VDD (power), 44 P1.21/PIPESTAT0 (io), 45 P0.15/EINT2 (io), 46 P0.16/EINT0/MAT0.2/CAP0.2 (io), 47 P0.17/CAP1.2/SCK1/MAT1.2 (io), 48 P1.20/TRACESYNC (io), 49 VBAT (power), 50 VSS (power), 51 VDD (power), 52 P1.30/TMS (io), 53 P0.18/CAP1.3/MISO1/MAT1.3 (io), 54 P0.19/MAT1.2/MOSI1/CAP1.2 (io), 55 P0.20/MAT1.3/SSEL1/EINT3 (io), 56 P1.29/TCK (io), 57 ~{RESET} (in), 58 P0.23/VBUS (io), 59 VSSA (power), 60 P1.28/TDI (io), 61 XTAL2, 62 XTAL1 (in), 63 VREF (in), 64 P1.27/TDO (io)